# Altium schematic symbol library SparkFun-DigitalIC.SCHLIB: 190 symbols (part 2 of 2)
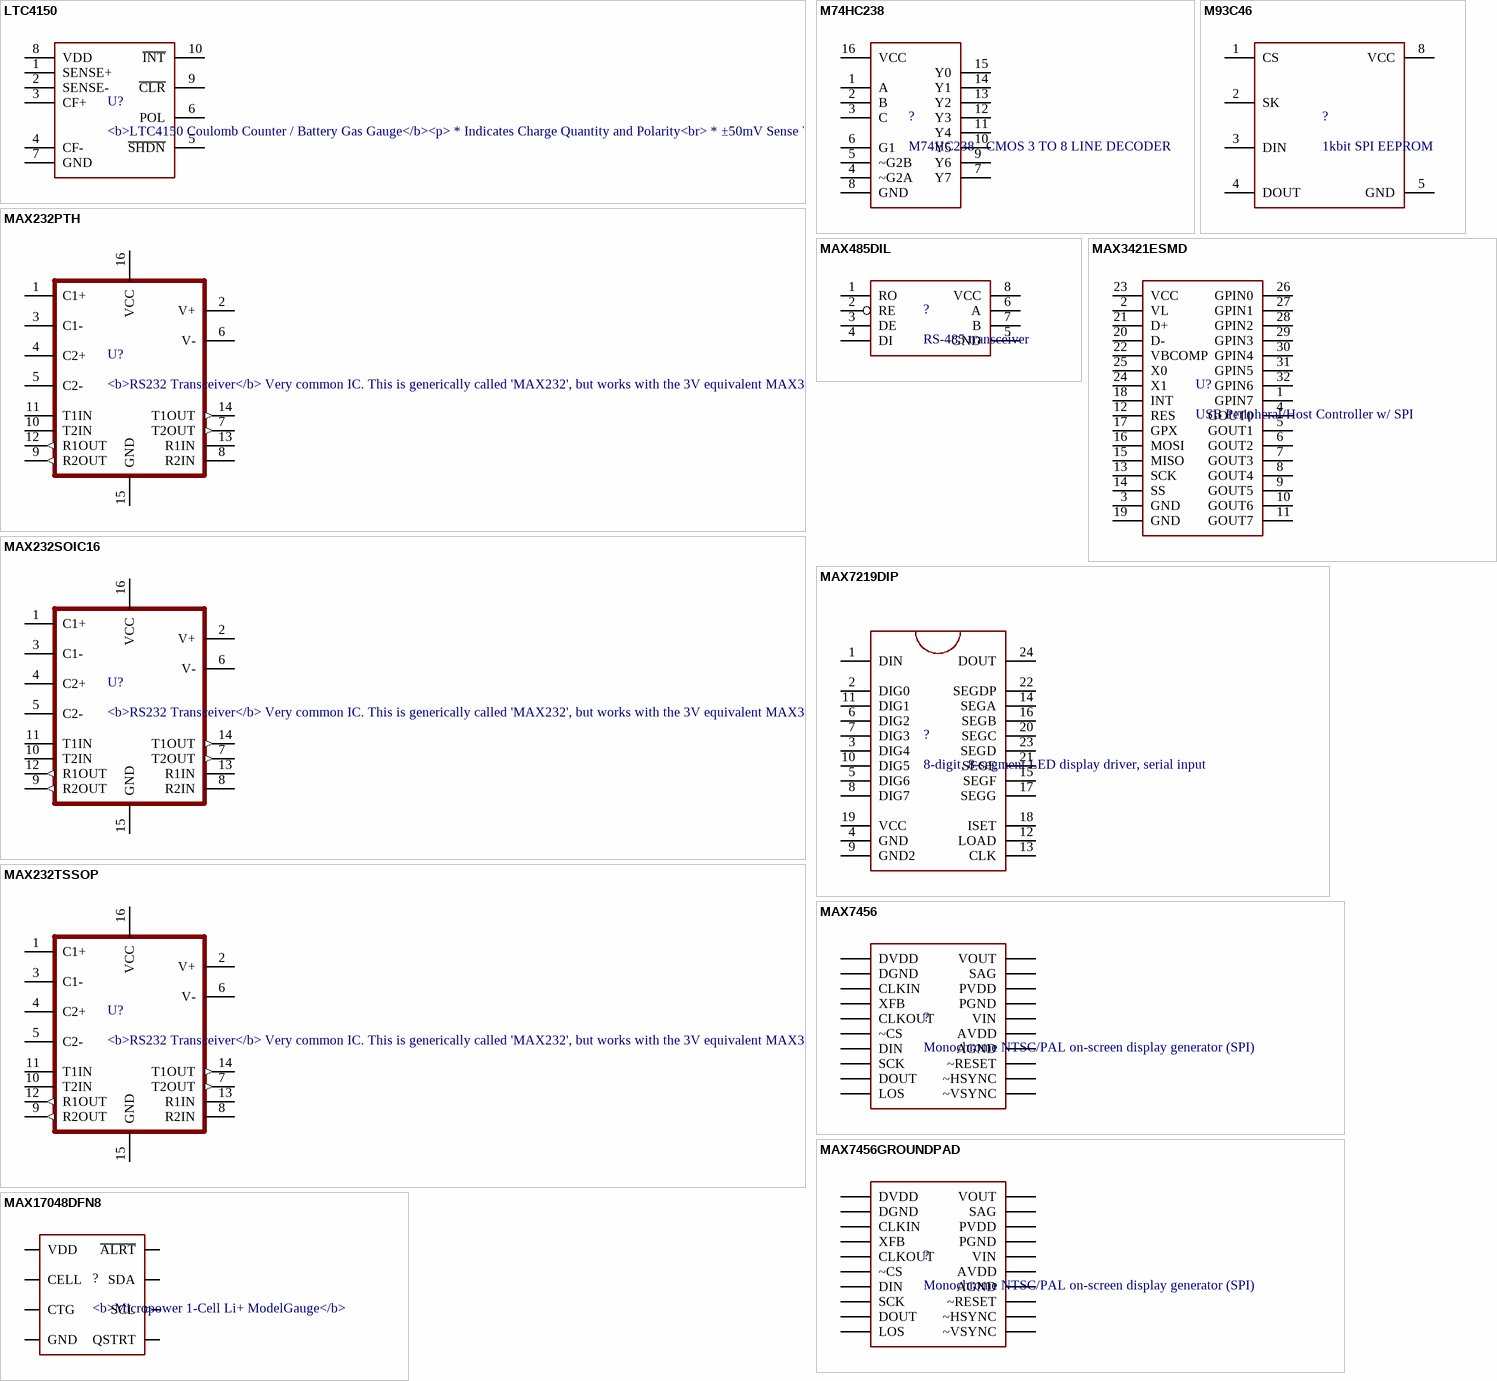
[diagram p24: symbols LTC4150 to MAX17048DFN8]

## MAX232TSSOP
designator U?, comment <b>RS232 Transceiver</b> / Very common IC. This is generically called 'MAX232', but works with the 3V equivalent MAX3232 generic ICs. Field tested and mother approved. Spark Fun Electronics SKU : COM-00316 (DIP) and COM-00589 (SMD)
footprint TSSOP16
pins: 1 C1+, 2 V+, 3 C1-, 4 C2+, 5 C2-, 6 V-, 7 T2OUT (out), 8 R2IN, 9 R2OUT (out), 10 T2IN, 11 T1IN, 12 R1OUT (out), 13 R1IN, 14 T1OUT (out), 15 GND, 16 VCC

## MAX485DIL
designator ?, comment RS-485 transceiver
footprint DIL08
pins: 1 RO, 2 RE, 3 DE, 4 DI, 5 GND, 6 A, 7 B, 8 VCC

## MAX3421ESMD
designator U?, comment USB Peripheral/Host Controller w/ SPI
footprint TQFP32-5MM
pins: 1 GPIN7, 2 VL, 3 GND, 4 GOUT0, 5 GOUT1, 6 GOUT2, 7 GOUT3, 8 GOUT4, 9 GOUT5, 10 GOUT6, 11 GOUT7, 12 RES, 13 SCK, 14 SS, 15 MISO, 16 MOSI, 17 GPX, 18 INT, 19 GND, 20 D-, 21 D+, 22 VBCOMP, 23 VCC, 24 X1, 25 X0, 26 GPIN0, 27 GPIN1, 28 GPIN2, 29 GPIN3, 30 GPIN4, 31 GPIN5, 32 GPIN6

## MAX7219DIP
designator ?, comment 8-digit, 8-segment LED display driver, serial input
footprint DIL24
pins: 1 DIN, 2 DIG0, 3 DIG4, 4 GND, 5 DIG6, 6 DIG2, 7 DIG3, 8 DIG7, 9 GND2, 10 DIG5, 11 DIG1, 12 LOAD, 13 CLK, 14 SEGA, 15 SEGF, 16 SEGB, 17 SEGG, 18 ISET, 19 VCC, 20 SEGC, 21 SEGE, 22 SEGDP, 23 SEGD, 24 DOUT

## MAX7456
designator ?, comment Monochrome NTSC/PAL on-screen display generator (SPI)
footprint TSSOP28
pins: 3 DVDD, 4 DGND, 5 CLKIN, 6 XFB, 7 CLKOUT, 8 ~CS, 9 DIN, 10 SCK, 11 DOUT, 12 LOS, 17 ~VSYNC, 18 ~HSYNC, 19 ~RESET, 20 AGND, 21 AVDD, 22 VIN, 23 PGND, 24 PVDD, 25 SAG, 26 VOUT

## MAX7456GROUNDPAD
designator ?, comment Monochrome NTSC/PAL on-screen display generator (SPI)
footprint TSSOP28-GROUNDPAD
pins: 3 DVDD, 4 DGND, 5 CLKIN, 6 XFB, 7 CLKOUT, 8 ~CS, 9 DIN, 10 SCK, 11 DOUT, 12 LOS, 17 ~VSYNC, 18 ~HSYNC, 19 ~RESET, 20 AGND, 21 AVDD, 22 VIN, 23 PGND, 24 PVDD, 25 SAG, 26 VOUT

## MAX17048DFN8
designator ?, comment <b>Micropower 1-Cell Li+ ModelGauge</b>
footprint DFN-8
pins: P$1 CTG, P$2 CELL, P$3 VDD, P$4 P$9 GND, P$5 ~{ALRT}, P$6 QSTRT, P$7 SCL (out), P$8 SDA

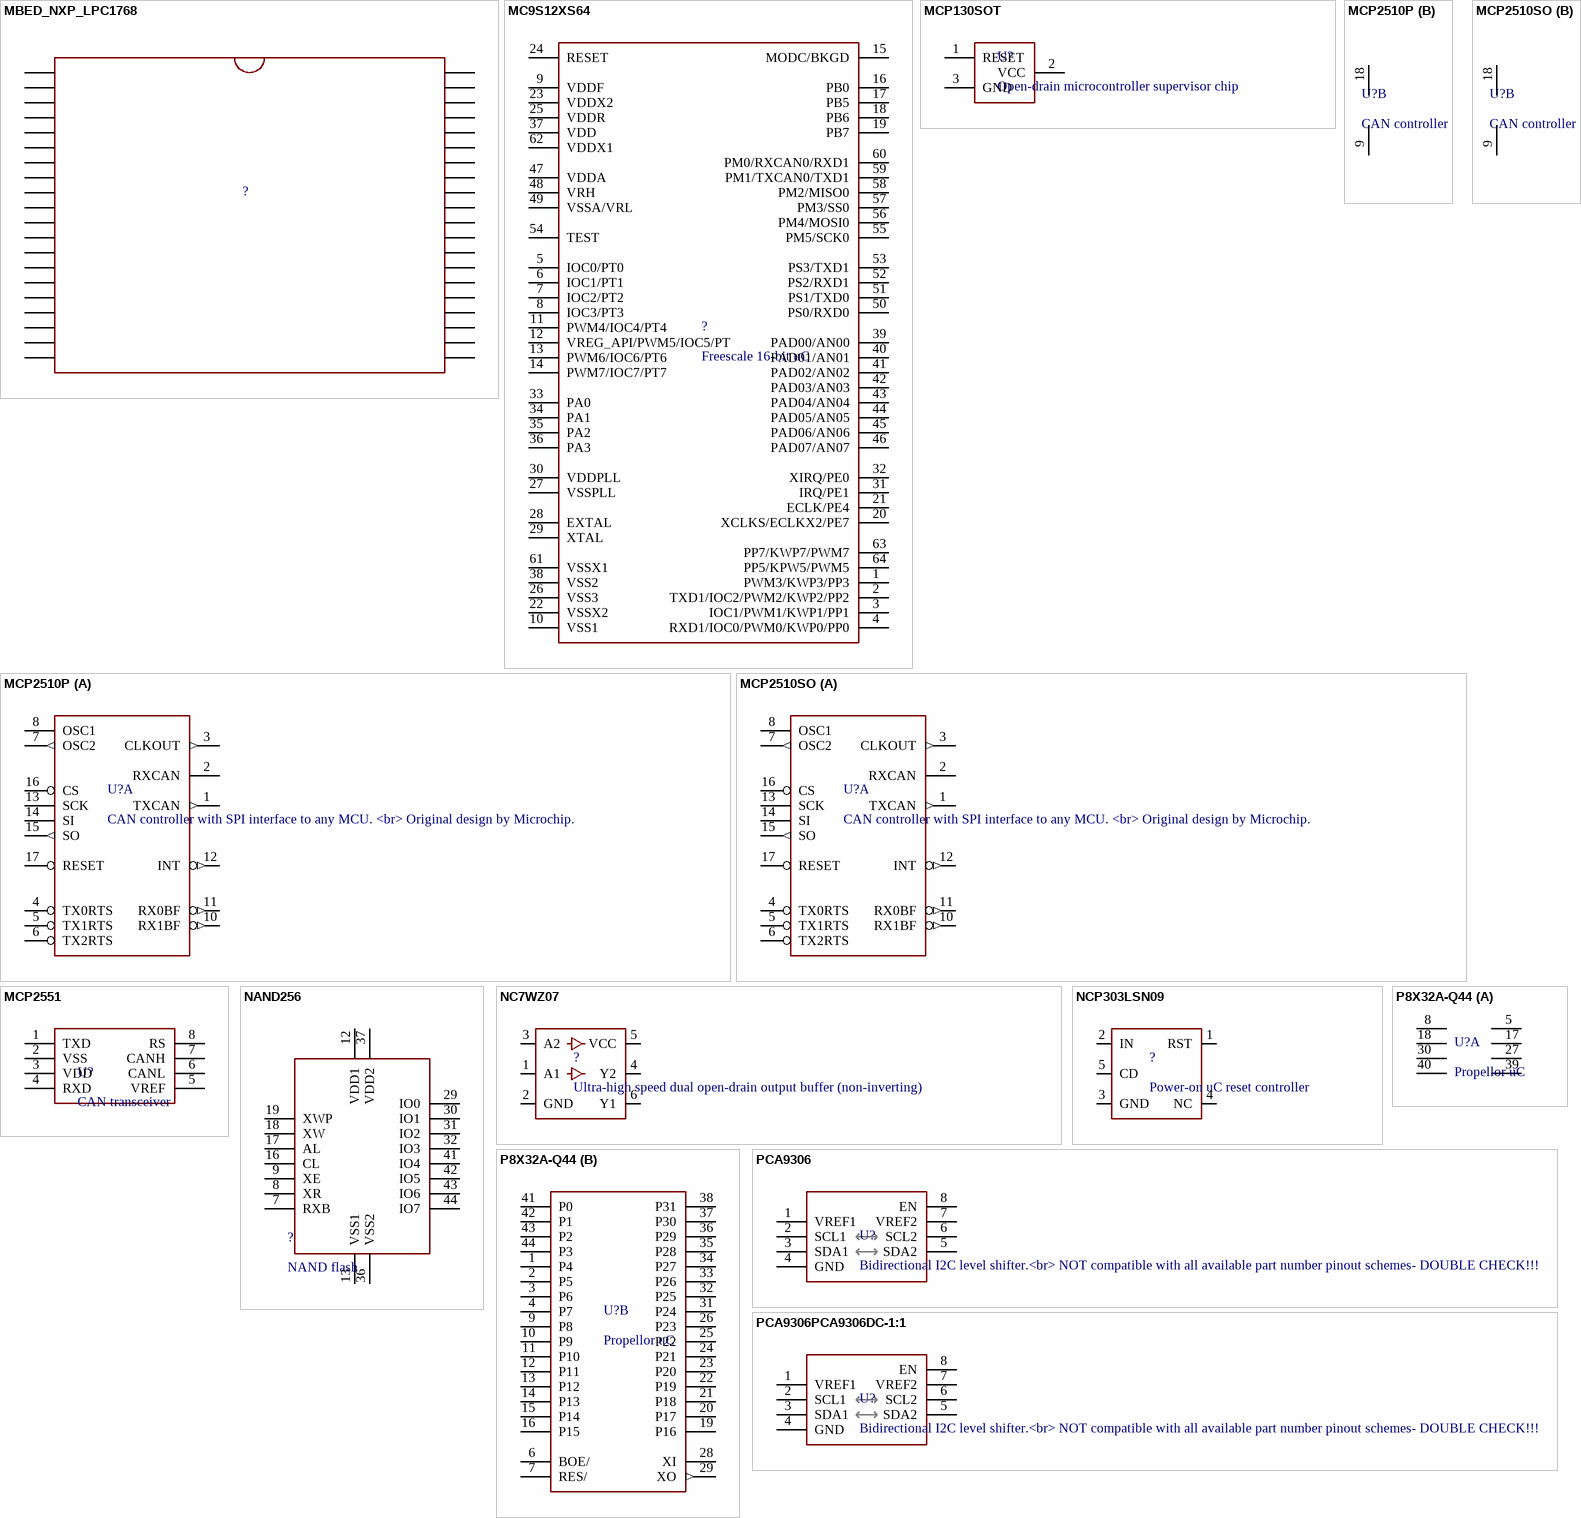
[diagram p14: symbols MBED_NXP_LPC1768 to PCA9306PCA9306DC-1:1]

## MBED_NXP_LPC1768
designator ?
footprint DIL40_0.9
pins: 1 P$1, 2 P$2, 3 P$3, 4 P$4, 5 P$5, 6 P$6, 7 P$7, 8 P$8, 9 P$9, 10 P$10, 11 P$11, 12 P$12, 13 P$13, 14 P$14, 15 P$15, 16 P$16, 17 P$17, 18 P$18, 19 P$19, 20 P$20, 21 P$21, 22 P$22, 23 P$23, 24 P$24, 25 P$25, 26 P$26, 27 P$27, 28 P$28, 29 P$29, 30 P$30, 31 P$31, 32 P$32, 33 P$33, 34 P$34, 35 P$35, 36 P$36, 37 P$37, 38 P$38, 39 P$39, 40 P$40

## MC9S12XS64
designator ?, comment Freescale 16-bit uC
footprint SQFP-S-10X10-64
pins: 1 PWM3/KWP3/PP3, 2 TXD1/IOC2/PWM2/KWP2/PP2, 3 IOC1/PWM1/KWP1/PP1, 4 RXD1/IOC0/PWM0/KWP0/PP0, 5 IOC0/PT0, 6 IOC1/PT1, 7 IOC2/PT2, 8 IOC3/PT3, 9 VDDF, 10 VSS1, 11 PWM4/IOC4/PT4, 12 VREG_API/PWM5/IOC5/PT, 13 PWM6/IOC6/PT6, 14 PWM7/IOC7/PT7, 15 MODC/BKGD, 16 PB0, 17 PB5, 18 PB6, 19 PB7, 20 XCLKS/ECLKX2/PE7, 21 ECLK/PE4, 22 VSSX2, 23 VDDX2, 24 RESET, 25 VDDR, 26 VSS3, 27 VSSPLL, 28 EXTAL, 29 XTAL, 30 VDDPLL, 31 IRQ/PE1, 32 XIRQ/PE0, 33 PA0, 34 PA1, 35 PA2, 36 PA3, 37 VDD, 38 VSS2, 39 PAD00/AN00, 40 PAD01/AN01, 41 PAD02/AN02, 42 PAD03/AN03, 43 PAD04/AN04, 44 PAD05/AN05, 45 PAD06/AN06, 46 PAD07/AN07, 47 VDDA, 48 VRH, 49 VSSA/VRL, 50 PS0/RXD0, 51 PS1/TXD0, 52 PS2/RXD1, 53 PS3/TXD1, 54 TEST, 55 PM5/SCK0, 56 PM4/MOSI0, 57 PM3/SS0, 58 PM2/MISO0, 59 PM1/TXCAN0/TXD1, 60 PM0/RXCAN0/RXD1, 61 VSSX1, 62 VDDX1, 63 PP7/KWP7/PWM7, 64 PP5/KPW5/PWM5

## MCP130SOT
designator U?, comment Open-drain microcontroller supervisor chip
footprint SOT23-3
pins: 1 RESET, 2 VCC, 3 GND

## MCP2510P
designator U?, comment CAN controller with SPI interface to any MCU. / <br> / Original design by Microchip.
footprint DIL18
part A pins: 1 TXCAN (out), 2 RXCAN, 3 CLKOUT (out), 4 TX0RTS, 5 TX1RTS, 6 TX2RTS, 7 OSC2 (out), 8 OSC1, 10 RX1BF (out), 11 RX0BF (out), 12 INT (out), 13 SCK, 14 SI, 15 SO (out), 16 CS, 17 RESET
part B pins: 9 VSS (power), 18 VDD (power)

## MCP2510SO
designator U?, comment CAN controller with SPI interface to any MCU. / <br> / Original design by Microchip.
PROD_ID: IC-09906
footprint SO-18W
part A pins: 1 TXCAN (out), 2 RXCAN, 3 CLKOUT (out), 4 TX0RTS, 5 TX1RTS, 6 TX2RTS, 7 OSC2 (out), 8 OSC1, 10 RX1BF (out), 11 RX0BF (out), 12 INT (out), 13 SCK, 14 SI, 15 SO (out), 16 CS, 17 RESET
part B pins: 9 VSS (power), 18 VDD (power)

## MCP2551
designator U?, comment CAN transceiver
PROD_ID: IC-09907
footprint SO08
pins: 1 TXD, 2 VSS, 3 VDD, 4 RXD, 5 VREF, 6 CANL, 7 CANH, 8 RS

## NAND256
designator ?, comment NAND flash
footprint TSOP48
pins: 7 RXB, 8 XR, 9 XE, 12 VDD1, 13 VSS1, 16 CL, 17 AL, 18 XW, 19 XWP, 29 IO0, 30 IO1, 31 IO2, 32 IO3, 36 VSS2, 37 VDD2, 41 IO4, 42 IO5, 43 IO6, 44 IO7

## NC7WZ07
designator ?, comment Ultra-high speed dual open-drain output buffer (non-inverting)
footprint SC70-6
pins: 1 A1, 2 GND, 3 A2, 4 Y2, 5 VCC, 6 Y1

## NCP303LSN09
designator ?, comment Power-on uC reset controller
footprint SOT23-5
pins: 1 RST, 2 IN, 3 GND, 4 NC, 5 CD

## P8X32A-Q44
designator U?, comment Propellor uC
footprint P8X32A-Q44
part A pins: 5 VSS (power), 8 VDD (power), 17 VSS (power), 18 VDD (power), 27 VSS (power), 30 VDD (power), 39 VSS (power), 40 VDD (power)
part B pins: 1 P4, 2 P5, 3 P6, 4 P7, 6 BOE/, 7 RES/, 9 P8, 10 P9, 11 P10, 12 P11, 13 P12, 14 P13, 15 P14, 16 P15, 19 P16, 20 P17, 21 P18, 22 P19, 23 P20, 24 P21, 25 P22, 26 P23, 28 XI, 29 XO (out), 31 P24, 32 P25, 33 P26, 34 P27, 35 P28, 36 P29, 37 P30, 38 P31, 41 P0, 42 P1, 43 P2, 44 P3

## PCA9306
designator U?, comment Bidirectional I2C level shifter.<br> / NOT compatible with all available part number pinout schemes- DOUBLE CHECK!!!
PROD_ID: IC-10023
footprint PSOP-8
pins: 1 VREF1, 2 SCL1, 3 SDA1, 4 GND, 5 SDA2, 6 SCL2, 7 VREF2, 8 EN

## PCA9306PCA9306DC-1:1
designator U?, comment Bidirectional I2C level shifter.<br> / NOT compatible with all available part number pinout schemes- DOUBLE CHECK!!!
PROD_ID: IC-10023
footprint PCA9306DC-1:1
pins: 1 VREF1, 2 SCL1, 3 SDA1, 4 GND, 5 SDA2, 6 SCL2, 7 VREF2, 8 EN

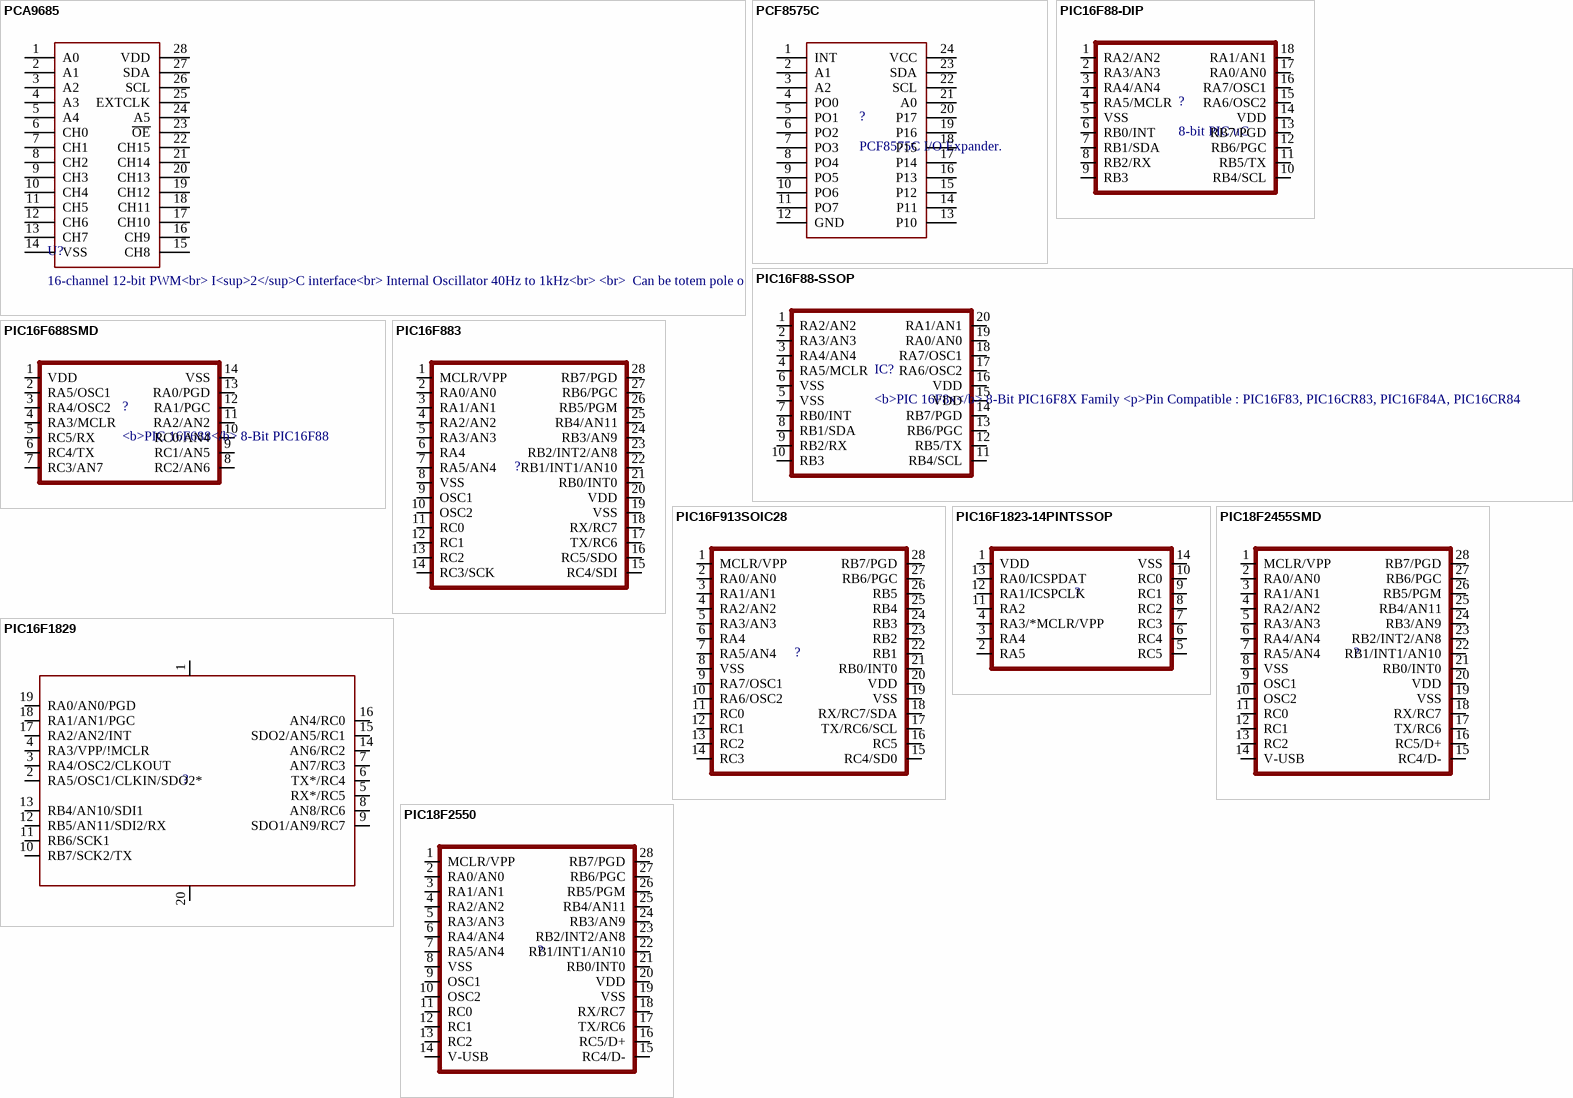
[diagram p15: symbols PCA9685 to PIC18F2550]

## PCA9685
designator U?, comment 16-channel 12-bit PWM<br> / I<sup>2</sup>C interface<br> / Internal Oscillator 40Hz to 1kHz<br> <br> / Can be totem pole or open collector<br> / 2.3V to 5.5V
PROD_ID: IC-12240
footprint TSSOP-28_4MM
pins: 1 A0, 2 A1, 3 A2, 4 A3, 5 A4, 6 CH0, 7 CH1, 8 CH2, 9 CH3, 10 CH4, 11 CH5, 12 CH6, 13 CH7, 14 VSS, 15 CH8, 16 CH9, 17 CH10, 18 CH11, 19 CH12, 20 CH13, 21 CH14, 22 CH15, 23 ~{OE}, 24 A5, 25 EXTCLK, 26 SCL, 27 SDA, 28 VDD

## PCF8575C
designator ?, comment PCF8575C I/O Expander.
footprint SO-24DW
pins: 1 INT, 2 A1, 3 A2, 4 PO0, 5 PO1, 6 PO2, 7 PO3, 8 PO4, 9 PO5, 10 PO6, 11 PO7, 12 GND, 13 P10, 14 P11, 15 P12, 16 P13, 17 P14, 18 P15, 19 P16, 20 P17, 21 A0, 22 SCL, 23 SDA, 24 VCC

## PIC16F88-DIP
designator ?, comment 8-bit PIC uC
footprint DIL18
pins: 1 RA2/AN2, 2 RA3/AN3, 3 RA4/AN4, 4 RA5/MCLR, 5 VSS (power), 6 RB0/INT, 7 RB1/SDA, 8 RB2/RX, 9 RB3, 10 RB4/SCL, 11 RB5/TX, 12 RB6/PGC, 13 RB7/PGD, 14 VDD (power), 15 RA6/OSC2, 16 RA7/OSC1, 17 RA0/AN0, 18 RA1/AN1

## PIC16F88-SSOP
designator IC?, comment <b>PIC 16F8x</b> / 8-Bit PIC16F8X Family / <p>Pin Compatible : PIC16F83, PIC16CR83, PIC16F84A, PIC16CR84
footprint SSOP20
pins: 1 RA2/AN2, 2 RA3/AN3, 3 RA4/AN4, 4 RA5/MCLR, 5 VSS (power), 6 VSS (power), 7 RB0/INT, 8 RB1/SDA, 9 RB2/RX, 10 RB3, 11 RB4/SCL, 12 RB5/TX, 13 RB6/PGC, 14 RB7/PGD, 15 VDD (power), 16 VDD (power), 17 RA6/OSC2, 18 RA7/OSC1, 19 RA0/AN0, 20 RA1/AN1

## PIC16F688SMD
designator ?, comment <b>PIC 16F688</b> / 8-Bit PIC16F88
footprint SOIC-14
pins: 1 VDD (power), 2 RA5/OSC1, 3 RA4/OSC2, 4 RA3/MCLR, 5 RC5/RX, 6 RC4/TX, 7 RC3/AN7, 8 RC2/AN6, 9 RC1/AN5, 10 RC0/AN4, 11 RA2/AN2, 12 RA1/PGC, 13 RA0/PGD, 14 VSS (power)

## PIC16F883
designator ?
footprint SO-28W
pins: 1 MCLR/VPP, 2 RA0/AN0, 3 RA1/AN1, 4 RA2/AN2, 5 RA3/AN3, 6 RA4, 7 RA5/AN4, 8 VSS (power), 9 OSC1, 10 OSC2, 11 RC0, 12 RC1, 13 RC2, 14 RC3/SCK, 15 RC4/SDI, 16 RC5/SDO, 17 TX/RC6, 18 RX/RC7, 19 VSS (power), 20 VDD (power), 21 RB0/INT0, 22 RB1/INT1/AN10, 23 RB2/INT2/AN8, 24 RB3/AN9, 25 RB4/AN11, 26 RB5/PGM, 27 RB6/PGC, 28 RB7/PGD

## PIC16F913SOIC28
designator ?
footprint SO-28W
pins: 1 MCLR/VPP, 2 RA0/AN0, 3 RA1/AN1, 4 RA2/AN2, 5 RA3/AN3, 6 RA4, 7 RA5/AN4, 8 VSS (power), 9 RA7/OSC1, 10 RA6/OSC2, 11 RC0, 12 RC1, 13 RC2, 14 RC3, 15 RC4/SD0, 16 RC5, 17 TX/RC6/SCL, 18 RX/RC7/SDA, 19 VSS (power), 20 VDD (power), 21 RB0/INT0, 22 RB1, 23 RB2, 24 RB3, 25 RB4, 26 RB5, 27 RB6/PGC, 28 RB7/PGD

## PIC16F1823-14PINTSSOP
designator ?
PROD_ID: IC-11992
footprint TSSOP14
pins: 1 VDD (power), 2 RA5, 3 RA4, 4 RA3/*MCLR/VPP, 5 RC5, 6 RC4, 7 RC3, 8 RC2, 9 RC1, 10 RC0, 11 RA2, 12 RA1/ICSPCLK, 13 RA0/ICSPDAT, 14 VSS (power)

## PIC16F1829
designator ?
footprint SSOP20
pins: 1 VDD (power), 2 RA5/OSC1/CLKIN/SDO2*, 3 RA4/OSC2/CLKOUT, 4 RA3/VPP/!MCLR, 5 RX*/RC5, 6 TX*/RC4, 7 AN7/RC3, 8 AN8/RC6, 9 SDO1/AN9/RC7, 10 RB7/SCK2/TX, 11 RB6/SCK1, 12 RB5/AN11/SDI2/RX, 13 RB4/AN10/SDI1, 14 AN6/RC2, 15 SDO2/AN5/RC1, 16 AN4/RC0, 17 RA2/AN2/INT, 18 RA1/AN1/PGC, 19 RA0/AN0/PGD, 20 VSS (power)

## PIC18F2455SMD
designator ?
footprint SO-28W
pins: 1 MCLR/VPP, 2 RA0/AN0, 3 RA1/AN1, 4 RA2/AN2, 5 RA3/AN3, 6 RA4/AN4, 7 RA5/AN4, 8 VSS (power), 9 OSC1, 10 OSC2, 11 RC0, 12 RC1, 13 RC2, 14 V-USB, 15 RC4/D-, 16 RC5/D+, 17 TX/RC6, 18 RX/RC7, 19 VSS (power), 20 VDD (power), 21 RB0/INT0, 22 RB1/INT1/AN10, 23 RB2/INT2/AN8, 24 RB3/AN9, 25 RB4/AN11, 26 RB5/PGM, 27 RB6/PGC, 28 RB7/PGD

## PIC18F2550
designator ?
footprint DIL28-3
pins: 1 MCLR/VPP, 2 RA0/AN0, 3 RA1/AN1, 4 RA2/AN2, 5 RA3/AN3, 6 RA4/AN4, 7 RA5/AN4, 8 VSS (power), 9 OSC1, 10 OSC2, 11 RC0, 12 RC1, 13 RC2, 14 V-USB, 15 RC4/D-, 16 RC5/D+, 17 TX/RC6, 18 RX/RC7, 19 VSS (power), 20 VDD (power), 21 RB0/INT0, 22 RB1/INT1/AN10, 23 RB2/INT2/AN8, 24 RB3/AN9, 25 RB4/AN11, 26 RB5/PGM, 27 RB6/PGC, 28 RB7/PGD

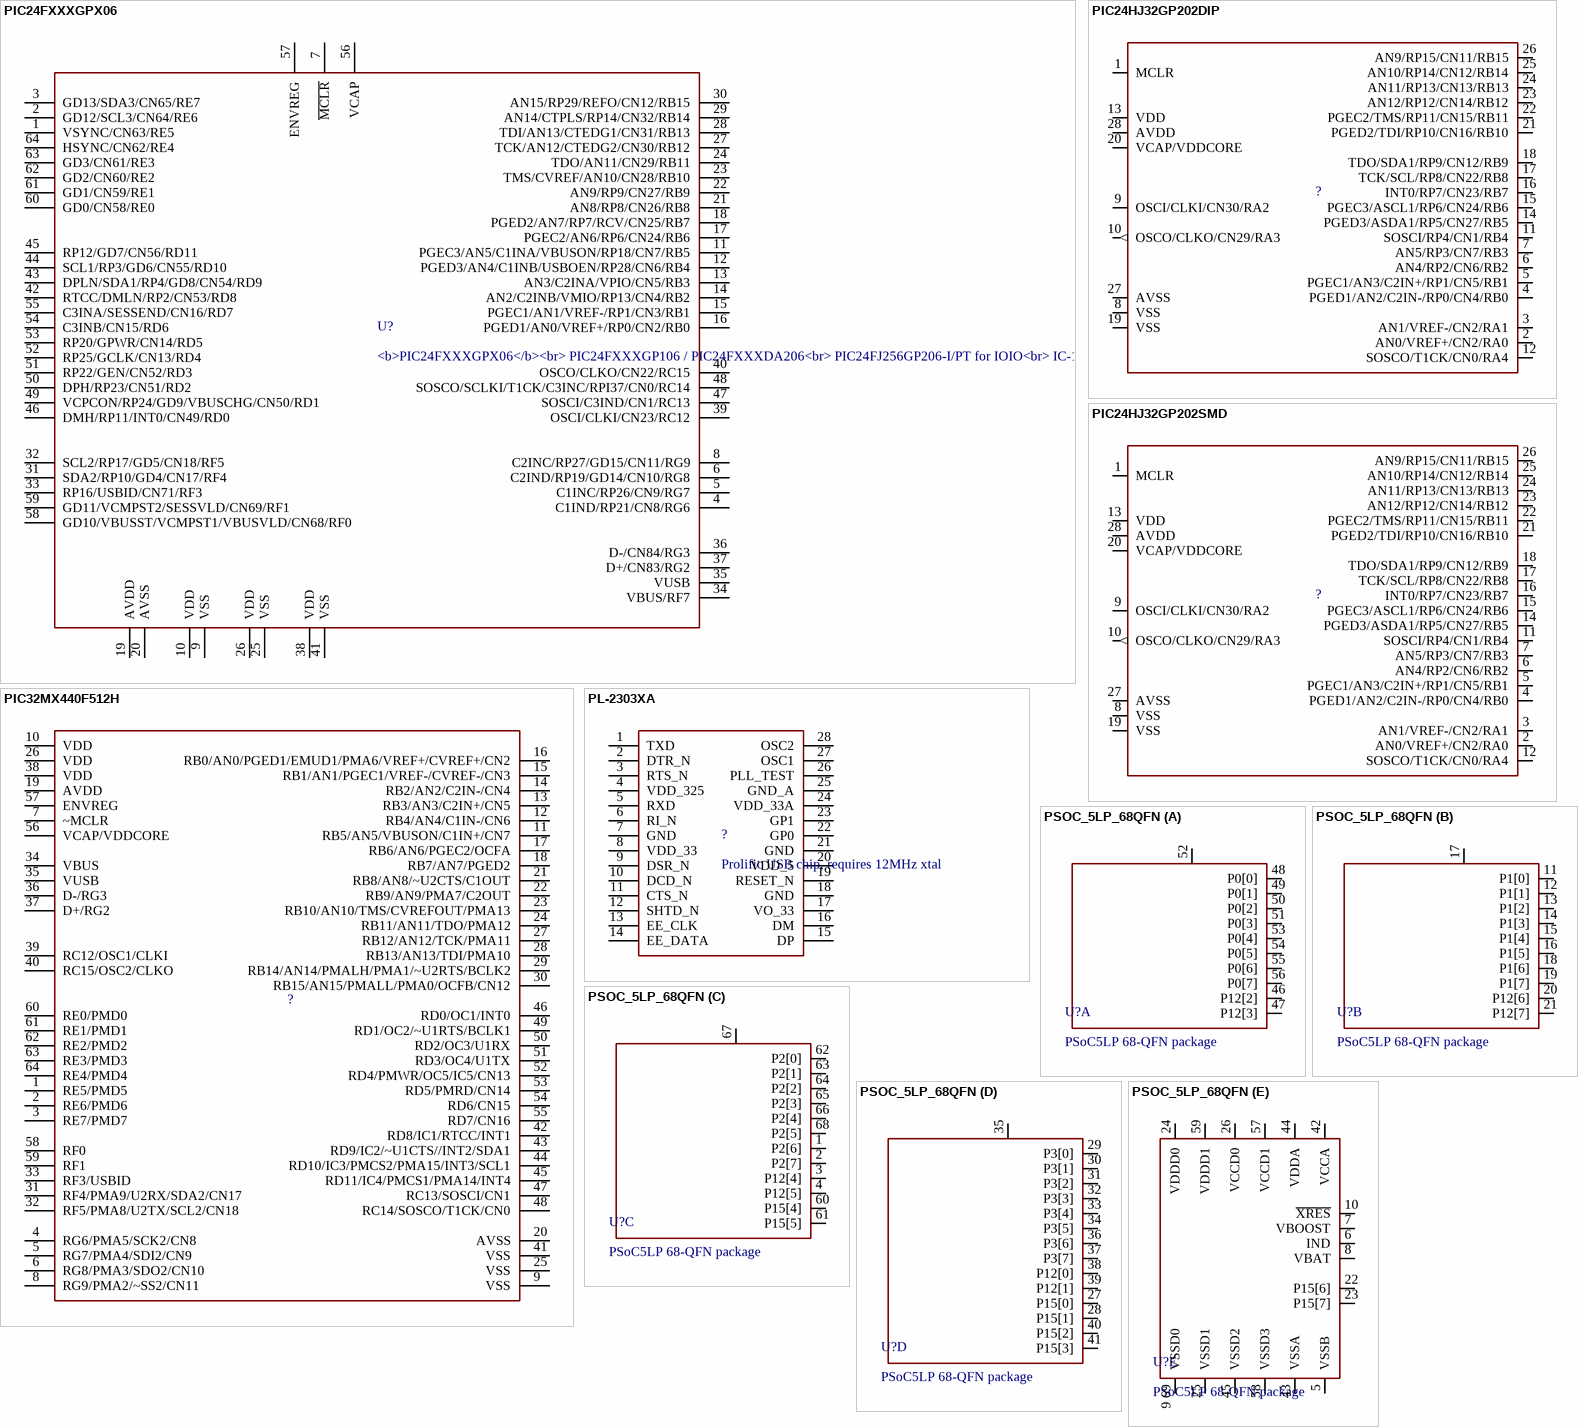
[diagram p16: symbols PIC24FXXXGPX06 to PSOC_5LP_68QFN]

## PIC24FXXXGPX06
designator U?, comment <b>PIC24FXXXGPX06</b><br> / PIC24FXXXGP106 / PIC24FXXXDA206<br> / PIC24FJ256GP206-I/PT for IOIO<br> / IC-11312
PROD_ID: IC-11312
footprint PIC24FXXX_TQFP64
pins: 1 VSYNC/CN63/RE5, 2 GD12/SCL3/CN64/RE6, 3 GD13/SDA3/CN65/RE7, 4 C1IND/RP21/CN8/RG6, 5 C1INC/RP26/CN9/RG7, 6 C2IND/RP19/GD14/CN10/RG8, 7 ~{MCLR}, 8 C2INC/RP27/GD15/CN11/RG9, 9 VSS (power), 10 VDD (power), 11 PGEC3/AN5/C1INA/VBUSON/RP18/CN7/RB5, 12 PGED3/AN4/C1INB/USBOEN/RP28/CN6/RB4, 13 AN3/C2INA/VPIO/CN5/RB3, 14 AN2/C2INB/VMIO/RP13/CN4/RB2, 15 PGEC1/AN1/VREF-/RP1/CN3/RB1, 16 PGED1/AN0/VREF+/RP0/CN2/RB0, 17 PGEC2/AN6/RP6/CN24/RB6, 18 PGED2/AN7/RP7/RCV/CN25/RB7, 19 AVDD (power), 20 AVSS (power), 21 AN8/RP8/CN26/RB8, 22 AN9/RP9/CN27/RB9, 23 TMS/CVREF/AN10/CN28/RB10, 24 TDO/AN11/CN29/RB11, 25 VSS (power), 26 VDD (power), 27 TCK/AN12/CTEDG2/CN30/RB12, 28 TDI/AN13/CTEDG1/CN31/RB13, 29 AN14/CTPLS/RP14/CN32/RB14, 30 AN15/RP29/REFO/CN12/RB15, 31 SDA2/RP10/GD4/CN17/RF4, 32 SCL2/RP17/GD5/CN18/RF5, 33 RP16/USBID/CN71/RF3, 34 VBUS/RF7, 35 VUSB (power), 36 D-/CN84/RG3, 37 D+/CN83/RG2, 38 VDD (power), 39 OSCI/CLKI/CN23/RC12, 40 OSCO/CLKO/CN22/RC15, 41 VSS (power), 42 RTCC/DMLN/RP2/CN53/RD8, 43 DPLN/SDA1/RP4/GD8/CN54/RD9, 44 SCL1/RP3/GD6/CN55/RD10, 45 RP12/GD7/CN56/RD11, 46 DMH/RP11/INT0/CN49/RD0, 47 SOSCI/C3IND/CN1/RC13, 48 SOSCO/SCLKI/T1CK/C3INC/RPI37/CN0/RC14, 49 VCPCON/RP24/GD9/VBUSCHG/CN50/RD1, 50 DPH/RP23/CN51/RD2, 51 RP22/GEN/CN52/RD3, 52 RP25/GCLK/CN13/RD4, 53 RP20/GPWR/CN14/RD5, 54 C3INB/CN15/RD6, 55 C3INA/SESSEND/CN16/RD7, 56 VCAP (power), 57 ENVREG, 58 GD10/VBUSST/VCMPST1/VBUSVLD/CN68/RF0, 59 GD11/VCMPST2/SESSVLD/CN69/RF1, 60 GD0/CN58/RE0, 61 GD1/CN59/RE1, 62 GD2/CN60/RE2, 63 GD3/CN61/RE3, 64 HSYNC/CN62/RE4

## PIC24HJ32GP202DIP
designator ?
footprint DIL28-3
pins: 1 MCLR, 2 AN0/VREF+/CN2/RA0, 3 AN1/VREF-/CN2/RA1, 4 PGED1/AN2/C2IN-/RP0/CN4/RB0, 5 PGEC1/AN3/C2IN+/RP1/CN5/RB1, 6 AN4/RP2/CN6/RB2, 7 AN5/RP3/CN7/RB3, 8 VSS (power), 9 OSCI/CLKI/CN30/RA2, 10 OSCO/CLKO/CN29/RA3 (out), 11 SOSCI/RP4/CN1/RB4, 12 SOSCO/T1CK/CN0/RA4, 13 VDD (power), 14 PGED3/ASDA1/RP5/CN27/RB5, 15 PGEC3/ASCL1/RP6/CN24/RB6, 16 INT0/RP7/CN23/RB7, 17 TCK/SCL/RP8/CN22/RB8, 18 TDO/SDA1/RP9/CN12/RB9, 19 VSS (power), 20 VCAP/VDDCORE (power), 21 PGED2/TDI/RP10/CN16/RB10, 22 PGEC2/TMS/RP11/CN15/RB11, 23 AN12/RP12/CN14/RB12, 24 AN11/RP13/CN13/RB13, 25 AN10/RP14/CN12/RB14, 26 AN9/RP15/CN11/RB15, 27 AVSS (power), 28 AVDD (power)

## PIC24HJ32GP202SMD
designator ?
footprint SO-28W
pins: 1 MCLR, 2 AN0/VREF+/CN2/RA0, 3 AN1/VREF-/CN2/RA1, 4 PGED1/AN2/C2IN-/RP0/CN4/RB0, 5 PGEC1/AN3/C2IN+/RP1/CN5/RB1, 6 AN4/RP2/CN6/RB2, 7 AN5/RP3/CN7/RB3, 8 VSS (power), 9 OSCI/CLKI/CN30/RA2, 10 OSCO/CLKO/CN29/RA3 (out), 11 SOSCI/RP4/CN1/RB4, 12 SOSCO/T1CK/CN0/RA4, 13 VDD (power), 14 PGED3/ASDA1/RP5/CN27/RB5, 15 PGEC3/ASCL1/RP6/CN24/RB6, 16 INT0/RP7/CN23/RB7, 17 TCK/SCL/RP8/CN22/RB8, 18 TDO/SDA1/RP9/CN12/RB9, 19 VSS (power), 20 VCAP/VDDCORE (power), 21 PGED2/TDI/RP10/CN16/RB10, 22 PGEC2/TMS/RP11/CN15/RB11, 23 AN12/RP12/CN14/RB12, 24 AN11/RP13/CN13/RB13, 25 AN10/RP14/CN12/RB14, 26 AN9/RP15/CN11/RB15, 27 AVSS (power), 28 AVDD (power)

## PIC32MX440F512H
designator ?
footprint SQFP-S-10X10-64
pins: 1 RE5/PMD5, 2 RE6/PMD6, 3 RE7/PMD7, 4 RG6/PMA5/SCK2/CN8, 5 RG7/PMA4/SDI2/CN9, 6 RG8/PMA3/SDO2/CN10, 7 ~MCLR, 8 RG9/PMA2/~SS2/CN11, 9 VSS, 10 VDD, 11 RB5/AN5/VBUSON/C1IN+/CN7, 12 RB4/AN4/C1IN-/CN6, 13 RB3/AN3/C2IN+/CN5, 14 RB2/AN2/C2IN-/CN4, 15 RB1/AN1/PGEC1/VREF-/CVREF-/CN3, 16 RB0/AN0/PGED1/EMUD1/PMA6/VREF+/CVREF+/CN2, 17 RB6/AN6/PGEC2/OCFA, 18 RB7/AN7/PGED2, 19 AVDD, 20 AVSS, 21 RB8/AN8/~U2CTS/C1OUT, 22 RB9/AN9/PMA7/C2OUT, 23 RB10/AN10/TMS/CVREFOUT/PMA13, 24 RB11/AN11/TDO/PMA12, 25 VSS, 26 VDD, 27 RB12/AN12/TCK/PMA11, 28 RB13/AN13/TDI/PMA10, 29 RB14/AN14/PMALH/PMA1/~U2RTS/BCLK2, 30 RB15/AN15/PMALL/PMA0/OCFB/CN12, 31 RF4/PMA9/U2RX/SDA2/CN17, 32 RF5/PMA8/U2TX/SCL2/CN18, 33 RF3/USBID, 34 VBUS, 35 VUSB, 36 D-/RG3, 37 D+/RG2, 38 VDD, 39 RC12/OSC1/CLKI, 40 RC15/OSC2/CLKO, 41 VSS, 42 RD8/IC1/RTCC/INT1, 43 RD9/IC2/~U1CTS//INT2/SDA1, 44 RD10/IC3/PMCS2/PMA15/INT3/SCL1, 45 RD11/IC4/PMCS1/PMA14/INT4, 46 RD0/OC1/INT0, 47 RC13/SOSCI/CN1, 48 RC14/SOSCO/T1CK/CN0, 49 RD1/OC2/~U1RTS/BCLK1, 50 RD2/OC3/U1RX, 51 RD3/OC4/U1TX, 52 RD4/PMWR/OC5/IC5/CN13, 53 RD5/PMRD/CN14, 54 RD6/CN15, 55 RD7/CN16, 56 VCAP/VDDCORE, 57 ENVREG, 58 RF0, 59 RF1, 60 RE0/PMD0, 61 RE1/PMD1, 62 RE2/PMD2, 63 RE3/PMD3, 64 RE4/PMD4

## PL-2303XA
designator ?, comment Prolific USB chip, requires 12MHz xtal
footprint SSOP28DB
pins: 1 TXD, 2 DTR_N, 3 RTS_N, 4 VDD_325, 5 RXD, 6 RI_N, 7 GND, 8 VDD_33, 9 DSR_N, 10 DCD_N, 11 CTS_N, 12 SHTD_N, 13 EE_CLK, 14 EE_DATA, 15 DP, 16 DM, 17 VO_33, 18 GND, 19 RESET_N, 20 VDD_5, 21 GND, 22 GP0, 23 GP1, 24 VDD_33A, 25 GND_A, 26 PLL_TEST, 27 OSC1, 28 OSC2

## PSOC_5LP_68QFN
designator U?, comment PSoC5LP 68-QFN package
PROD_ID: IC-12391
footprint QFN-68
part A pins: 46 P12[2], 47 P12[3], 48 P0[0], 49 P0[1], 50 P0[2], 51 P0[3], 52 VDDIO0, 53 P0[4], 54 P0[5], 55 P0[6], 56 P0[7]
part B pins: 11 P1[0], 12 P1[1], 13 P1[2], 14 P1[3], 15 P1[4], 16 P1[5], 17 VDDIO1, 18 P1[6], 19 P1[7], 20 P12[6], 21 P12[7]
part C pins: 1 P2[6], 2 P2[7], 3 P12[4], 4 P12[5], 60 P15[4], 61 P15[5], 62 P2[0], 63 P2[1], 64 P2[2], 65 P2[3], 66 P2[4], 67 VDDIO2, 68 P2[5]
part D pins: 27 P15[0], 28 P15[1], 29 P3[0], 30 P3[1], 31 P3[2], 32 P3[3], 33 P3[4], 34 P3[5], 35 VDDIO3, 36 P3[6], 37 P3[7], 38 P12[0], 39 P12[1], 40 P15[2], 41 P15[3]
part E pins: 5 VSSB, 6 IND, 7 VBOOST, 8 VBAT, 9 69 VSSD0, 10 ~{XRES}, 22 P15[6], 23 P15[7], 24 VDDD0, 25 VSSD1, 26 VCCD0, 42 VCCA, 43 VSSA, 44 VDDA, 45 VSSD2, 57 VCCD1, 58 VSSD3, 59 VDDD1

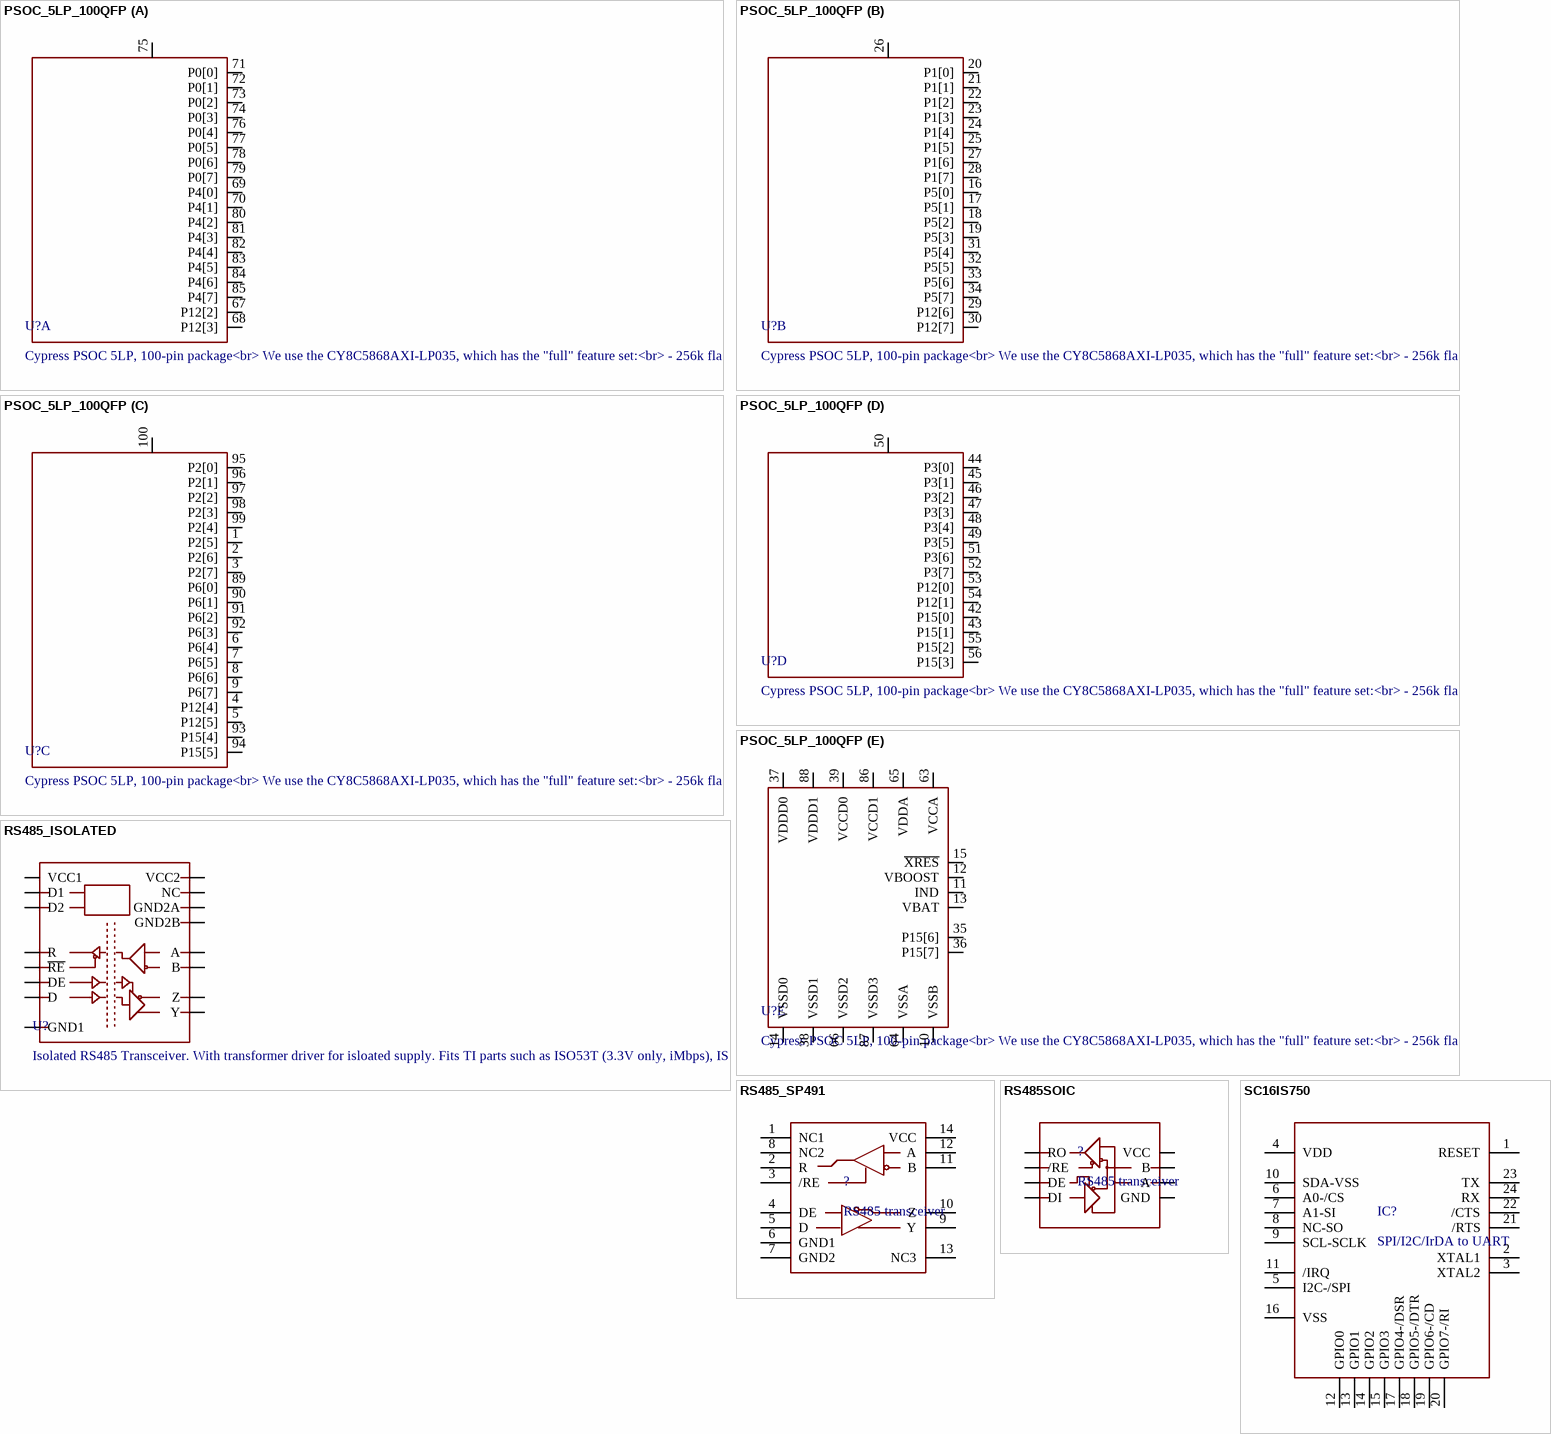
[diagram p17: symbols PSOC_5LP_100QFP to SC16IS750]

## PSOC_5LP_100QFP
designator U?, comment Cypress PSOC 5LP, 100-pin package<br> / We use the CY8C5868AXI-LP035, which has the "full" feature set:<br> / - 256k flash<br> / - 64k SRAM<br> / - 2k EEPROM <br> / - CAN<br> / - Full-speed USB<br> / - 67MHz operation
PROD_ID: IC-12190
footprint TQFP-100-14X14MM
part A pins: 67 P12[2], 68 P12[3], 69 P4[0], 70 P4[1], 71 P0[0], 72 P0[1], 73 P0[2], 74 P0[3], 75 VDDIO0, 76 P0[4], 77 P0[5], 78 P0[6], 79 P0[7], 80 P4[2], 81 P4[3], 82 P4[4], 83 P4[5], 84 P4[6], 85 P4[7]
part B pins: 16 P5[0], 17 P5[1], 18 P5[2], 19 P5[3], 20 P1[0], 21 P1[1], 22 P1[2], 23 P1[3], 24 P1[4], 25 P1[5], 26 VDDIO1, 27 P1[6], 28 P1[7], 29 P12[6], 30 P12[7], 31 P5[4], 32 P5[5], 33 P5[6], 34 P5[7]
part C pins: 1 P2[5], 2 P2[6], 3 P2[7], 4 P12[4], 5 P12[5], 6 P6[4], 7 P6[5], 8 P6[6], 9 P6[7], 89 P6[0], 90 P6[1], 91 P6[2], 92 P6[3], 93 P15[4], 94 P15[5], 95 P2[0], 96 P2[1], 97 P2[2], 98 P2[3], 99 P2[4], 100 VDDIO2
part D pins: 42 P15[0], 43 P15[1], 44 P3[0], 45 P3[1], 46 P3[2], 47 P3[3], 48 P3[4], 49 P3[5], 50 VDDIO3, 51 P3[6], 52 P3[7], 53 P12[0], 54 P12[1], 55 P15[2], 56 P15[3]
part E pins: 10 VSSB, 11 IND, 12 VBOOST, 13 VBAT, 14 VSSD0, 15 ~{XRES}, 35 P15[6], 36 P15[7], 37 VDDD0, 38 VSSD1, 39 VCCD0, 63 VCCA, 64 VSSA, 65 VDDA, 66 VSSD2, 86 VCCD1, 87 VSSD3, 88 VDDD1

## RS485_ISOLATED
designator U?, comment Isolated RS485 Transceiver. / With transformer driver for isloated supply. / Fits TI parts such as ISO53T (3.3V only, iMbps), ISO3086T (3.3V or 5V, 20 Mbps). / Footprint unproven.
footprint SO16L
pins: 1 D1, 2 D2, 3 GND1, 4 VCC1, 5 R, 6 ~{RE}, 7 DE, 8 D, 9 GND2B, 10 NC, 11 Y, 12 Z, 13 B, 14 A, 15 GND2A, 16 VCC2

## RS485_SP491
designator ?, comment RS485 transceiver
footprint SOIC-14
pins: 1 NC1, 2 R, 3 /RE, 4 DE, 5 D, 6 GND1, 7 GND2, 8 NC2, 9 Y, 10 Z, 11 B, 12 A, 13 NC3, 14 VCC

## RS485SOIC
designator ?, comment RS485 transceiver
footprint SO08
pins: 1 RO, 2 /RE, 3 DE, 4 DI, 5 GND, 6 A, 7 B, 8 VCC

## SC16IS750
designator IC?, comment SPI/I2C/IrDA to UART
footprint QFN-24
pins: 1 RESET, 2 XTAL1, 3 XTAL2, 4 VDD, 5 I2C-/SPI, 6 A0-/CS, 7 A1-SI, 8 NC-SO, 9 SCL-SCLK, 10 SDA-VSS, 11 /IRQ, 12 GPIO0, 13 GPIO1, 14 GPIO2, 15 GPIO3, 16 VSS, 17 GPIO4-/DSR, 18 GPIO5-/DTR, 19 GPIO6-/CD, 20 GPIO7-/RI, 21 /RTS, 22 /CTS, 23 TX, 24 RX

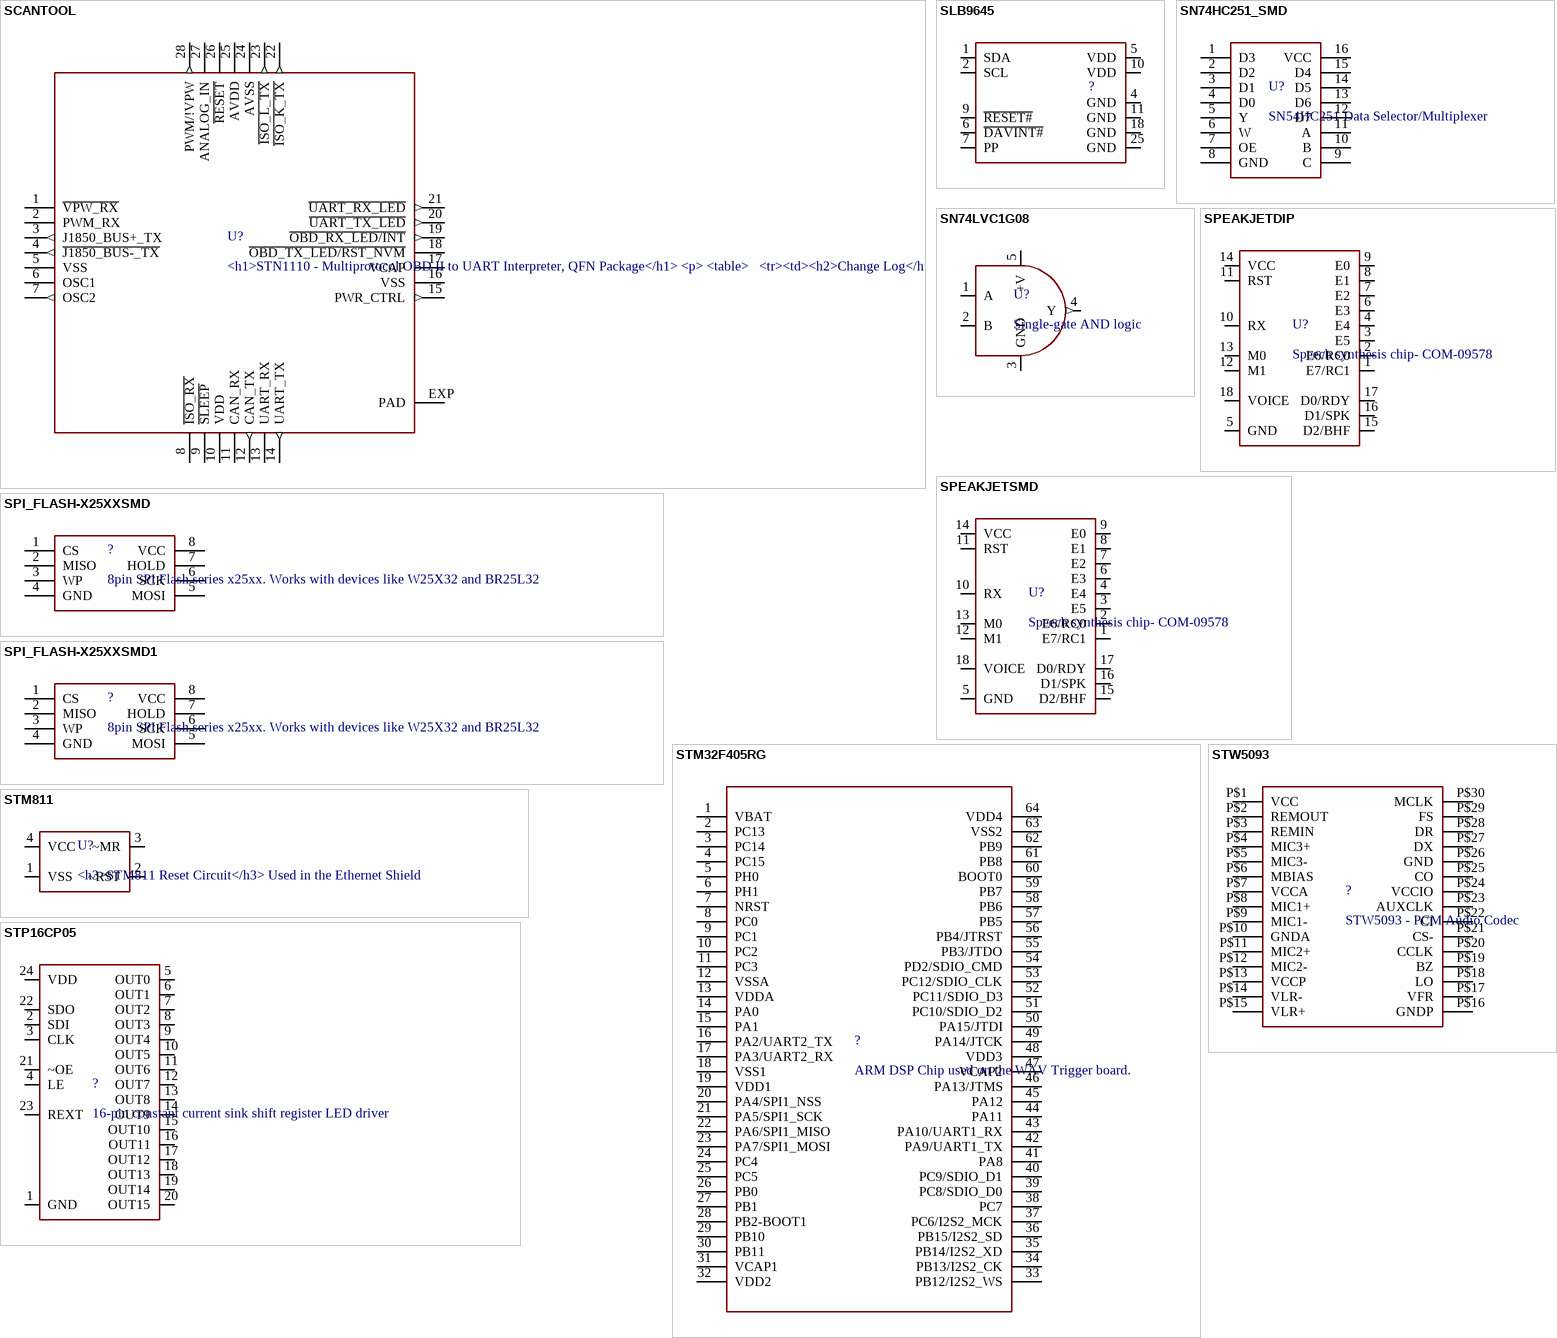
[diagram p18: symbols SCANTOOL to STW5093]

## SCANTOOL
designator U?, comment <h1>STN1110 - Multiprotocol OBD II to UART Interpreter, QFN Package</h1> / <p> / <table> / <tr><td><h2>Change Log</h2></td></tr> / <tr> / <th>Date</th><th>Author</th><th>Change</th> / <tr> / <td>Aug 23, 2010</td><td>vit@scantool.net</td><td>Created device</td> / </tr> / </tr> / </table> / </p> / <br />
footprint _STN_SCANTOOL_QFN-28-S
pins: 1 ~{VPW_RX}, 2 PWM_RX, 3 J1850_BUS+_TX (out), 4 ~{J1850_BUS-_TX} (out), 5 VSS (power), 6 OSC1, 7 OSC2 (out), 8 ~{ISO_RX}, 9 ~{SLEEP}, 10 VDD (power), 11 CAN_RX, 12 CAN_TX (out), 13 UART_RX, 14 UART_TX (out), 15 PWR_CTRL (out), 16 VSS (power), 17 VCAP (power), 18 ~{OBD_TX_LED/RST_NVM}, 19 ~{OBD_RX_LED/INT} (out), 20 ~{UART_TX_LED} (out), 21 ~{UART_RX_LED} (out), 22 ~{ISO_K_TX} (out), 23 ~{ISO_L_TX} (out), 24 AVSS (power), 25 AVDD (power), 26 ~{RESET}, 27 ANALOG_IN, 28 PWM/!VPW (out), EXP PAD

## SLB9645
designator ?
PROD_ID: IC-XXXX
footprint TSSOP28
pins: 1 SDA, 2 SCL, 4 GND, 5 VDD, 6 ~{DAVINT#}, 7 PP, 9 ~{RESET#}, 10 VDD, 11 GND, 18 GND, 25 GND

## SN74HC251_SMD
designator U?, comment SN54HC251 Data Selector/Multiplexer
footprint SO016
pins: 1 D3, 2 D2, 3 D1, 4 D0, 5 Y, 6 W, 7 OE, 8 GND, 9 C, 10 B, 11 A, 12 D7, 13 D6, 14 D5, 15 D4, 16 VCC

## SN74LVC1G08
designator U?, comment Single-gate AND logic
PROD_ID: 10841
footprint SOT23-5
pins: 1 A, 2 B, 3 GND (power), 4 Y (out), 5 +V (power)

## SPEAKJETDIP
designator U?, comment Speech synthesis chip- COM-09578
footprint DIL18
pins: 1 E7/RC1, 2 E6/RC0, 3 E5, 4 E4, 5 GND, 6 E3, 7 E2, 8 E1, 9 E0, 10 RX, 11 RST, 12 M1, 13 M0, 14 VCC, 15 D2/BHF, 16 D1/SPK, 17 D0/RDY, 18 VOICE

## SPEAKJETSMD
designator U?, comment Speech synthesis chip- COM-09578
footprint SOIC-18
pins: 1 E7/RC1, 2 E6/RC0, 3 E5, 4 E4, 5 GND, 6 E3, 7 E2, 8 E1, 9 E0, 10 RX, 11 RST, 12 M1, 13 M0, 14 VCC, 15 D2/BHF, 16 D1/SPK, 17 D0/RDY, 18 VOICE

## SPI_FLASH-X25XXSMD
designator ?, comment 8pin SPI Flash series x25xx. Works with devices like W25X32 and BR25L32
footprint SO08
pins: 1 CS, 2 MISO, 3 WP, 4 GND, 5 MOSI, 6 SCK, 7 HOLD, 8 VCC

## SPI_FLASH-X25XXSMD1
designator ?, comment 8pin SPI Flash series x25xx. Works with devices like W25X32 and BR25L32
PROD_ID: IC-09109
footprint SO08-EIAJ
pins: 1 CS, 2 MISO, 3 WP, 4 GND, 5 MOSI, 6 SCK, 7 HOLD, 8 VCC

## STM32F405RG
designator ?, comment ARM DSP Chip used on the WAV Trigger board.
footprint TQFP64
pins: 1 VBAT, 2 PC13, 3 PC14, 4 PC15, 5 PH0, 6 PH1, 7 NRST, 8 PC0, 9 PC1, 10 PC2, 11 PC3, 12 VSSA, 13 VDDA, 14 PA0, 15 PA1, 16 PA2/UART2_TX, 17 PA3/UART2_RX, 18 VSS1, 19 VDD1, 20 PA4/SPI1_NSS, 21 PA5/SPI1_SCK, 22 PA6/SPI1_MISO, 23 PA7/SPI1_MOSI, 24 PC4, 25 PC5, 26 PB0, 27 PB1, 28 PB2-BOOT1, 29 PB10, 30 PB11, 31 VCAP1, 32 VDD2, 33 PB12/I2S2_WS, 34 PB13/I2S2_CK, 35 PB14/I2S2_XD, 36 PB15/I2S2_SD, 37 PC6/I2S2_MCK, 38 PC7, 39 PC8/SDIO_D0, 40 PC9/SDIO_D1, 41 PA8, 42 PA9/UART1_TX, 43 PA10/UART1_RX, 44 PA11, 45 PA12, 46 PA13/JTMS, 47 VCAP2, 48 VDD3, 49 PA14/JTCK, 50 PA15/JTDI, 51 PC10/SDIO_D2, 52 PC11/SDIO_D3, 53 PC12/SDIO_CLK, 54 PD2/SDIO_CMD, 55 PB3/JTDO, 56 PB4/JTRST, 57 PB5, 58 PB6, 59 PB7, 60 BOOT0, 61 PB8, 62 PB9, 63 VSS2, 64 VDD4

## STM811
designator U?, comment <h3>STM811 Reset Circuit</h3> / Used in the Ethernet Shield
footprint SOT143
pins: 1 VSS, 2 ~RST, 3 ~MR, 4 VCC

## STP16CP05
designator ?, comment 16-pin constant current sink shift register LED driver
footprint SO-24DW
pins: 1 GND, 2 SDI, 3 CLK, 4 LE, 5 OUT0, 6 OUT1, 7 OUT2, 8 OUT3, 9 OUT4, 10 OUT5, 11 OUT6, 12 OUT7, 13 OUT8, 14 OUT9, 15 OUT10, 16 OUT11, 17 OUT12, 18 OUT13, 19 OUT14, 20 OUT15, 21 ~OE, 22 SDO, 23 REXT, 24 VDD

## STW5093
designator ?, comment STW5093 - PCM Audio Codec
footprint TSSOP30
pins: P$1 VCC, P$2 REMOUT, P$3 REMIN, P$4 MIC3+, P$5 MIC3-, P$6 MBIAS, P$7 VCCA, P$8 MIC1+, P$9 MIC1-, P$10 GNDA, P$11 MIC2+, P$12 MIC2-, P$13 VCCP, P$14 VLR-, P$15 VLR+, P$16 GNDP, P$17 VFR, P$18 LO, P$19 BZ, P$20 CCLK, P$21 CS-, P$22 CI, P$23 AUXCLK, P$24 VCCIO, P$25 CO, P$26 GND, P$27 DX, P$28 DR, P$29 FS, P$30 MCLK

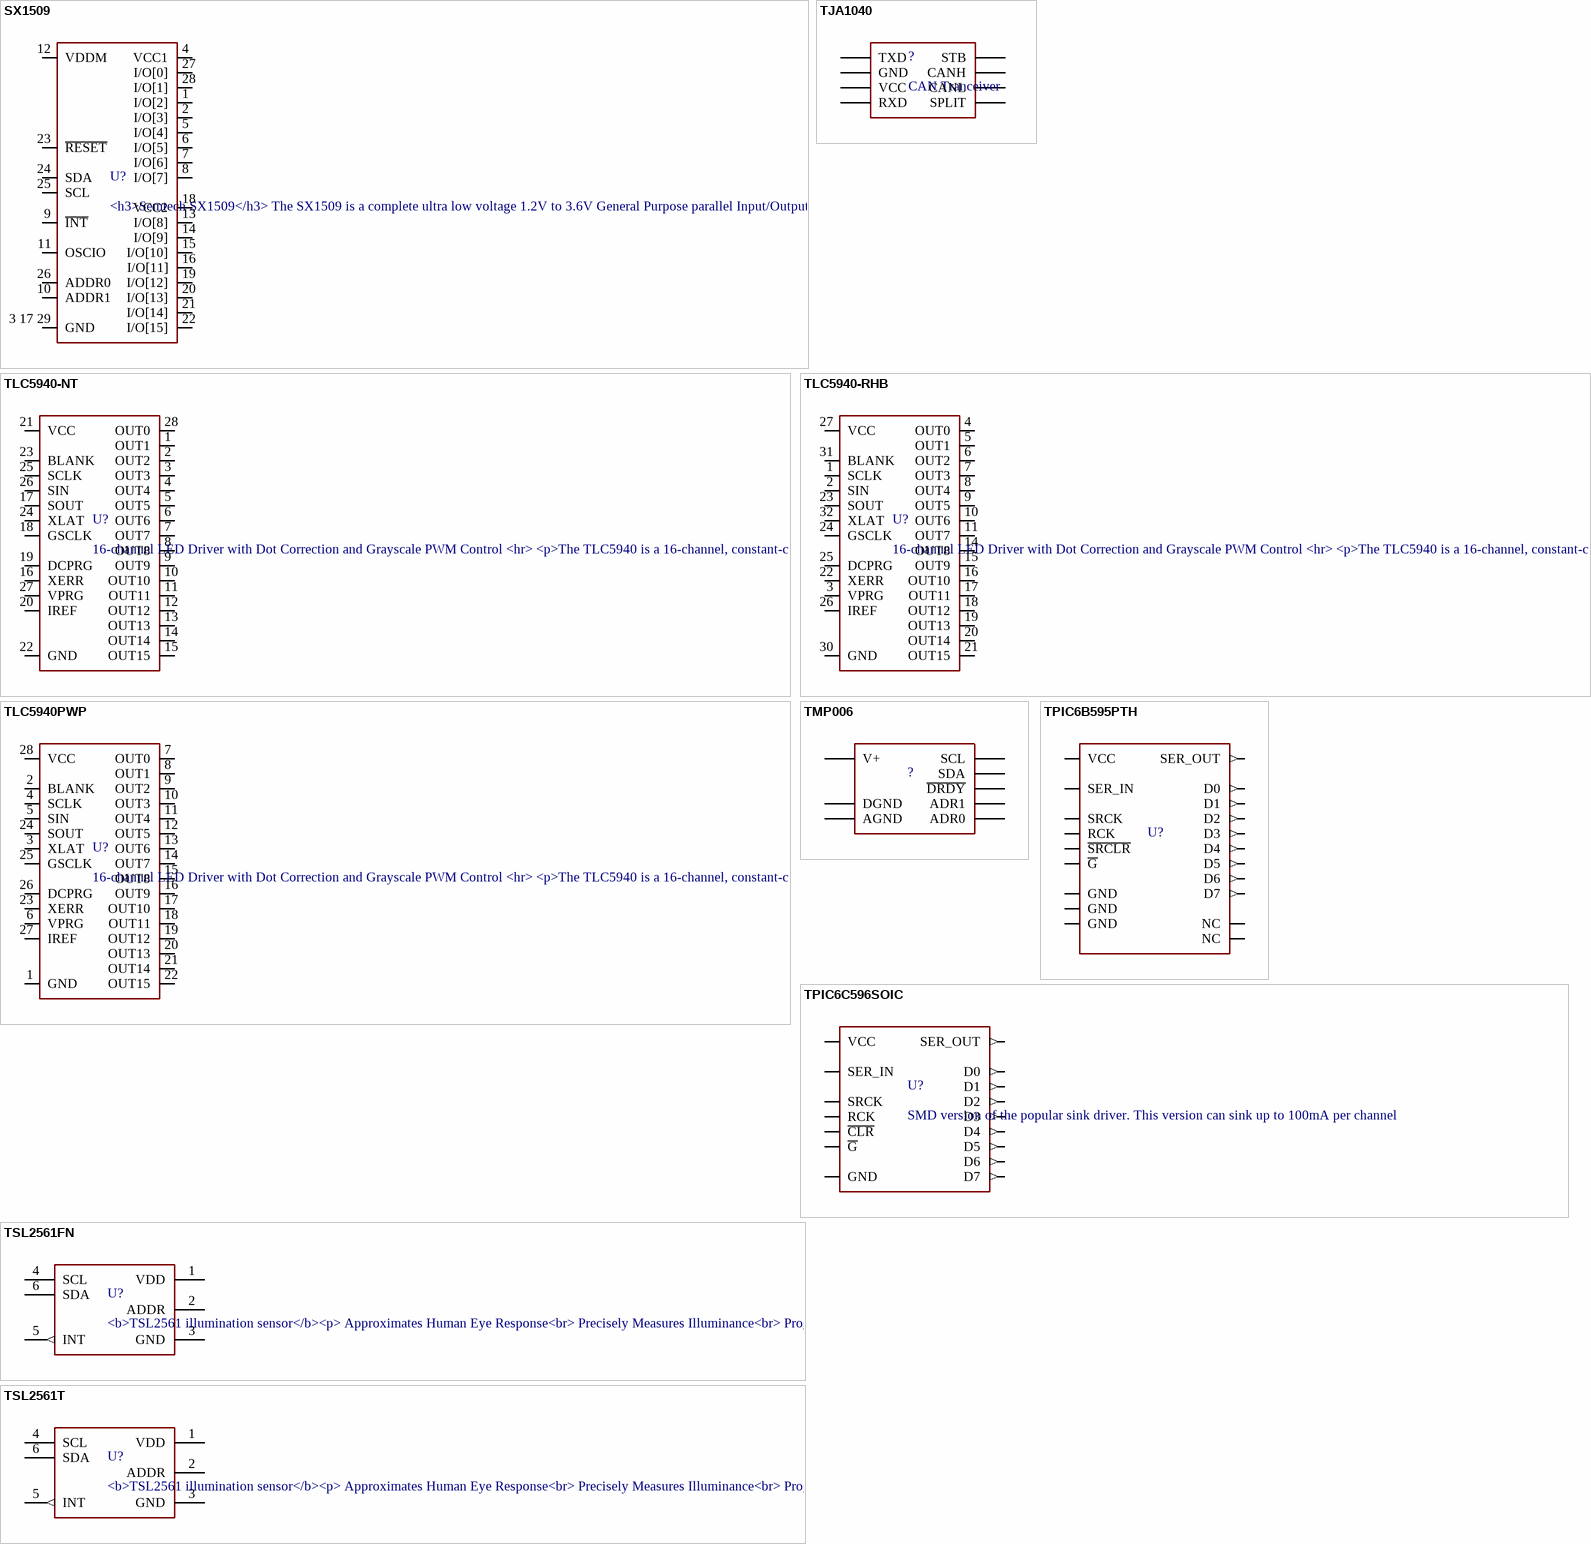
[diagram p19: symbols SX1509 to TSL2561T]

## SX1509
designator U?, comment <h3>Semtech SX1509</h3> / The SX1509 is a complete ultra low voltage 1.2V to 3.6V General Purpose parallel Input/Output (GPIO) expanders ideal for low power handheld battery powered equipment. This version comes in a 16-channel configuration and allows easy serial expansion of I/O through a standard 400kHz I2C interface. GPIO devices can provide additional control and monitoring when the microcontroller or chipset has insufficient I/O ports, or in systems where serial communication and control from a remote location is advantageous.
PROD_ID: IC-11311
footprint QFN-28
pins: 1 I/O[2], 2 I/O[3], 3 17 29 GND, 4 VCC1, 5 I/O[4], 6 I/O[5], 7 I/O[6], 8 I/O[7], 9 ~{INT}, 10 ADDR1, 11 OSCIO, 12 VDDM, 13 I/O[8], 14 I/O[9], 15 I/O[10], 16 I/O[11], 18 VCC2, 19 I/O[12], 20 I/O[13], 21 I/O[14], 22 I/O[15], 23 ~{RESET}, 24 SDA, 25 SCL, 26 ADDR0, 27 I/O[0], 28 I/O[1]

## TJA1040
designator ?, comment CAN Tranceiver
footprint SO08
pins: 1 TXD, 2 GND, 3 VCC, 4 RXD, 5 SPLIT, 6 CANL, 7 CANH, 8 STB

## TLC5940-NT
designator U?, comment 16-channel LED Driver with Dot Correction and Grayscale PWM Control / <hr> / <p>The TLC5940 is a 16-channel, constant-current sink LED driver. Each channel has an individually adjustable 4096-step grayscale PWM brightness control and a 64-step, constant-current sink (dot correction). The dot correction adjusts the brightness variations between LED channels and other LED drivers. The dot correction data is stored in an integrated EEPROM. Both grayscale control and dot correction are accessible via a serial interface. A single external resistor sets the maximum current value of all 16 channels.</p> / <p><b>Packages:</b> / <ul><li>28-pin HTSSOP / <li>32-pin 5x5mm QFN / <li>28-pin DIP</ul></p>
footprint DIL28-3
pins: 1 OUT1, 2 OUT2, 3 OUT3, 4 OUT4, 5 OUT5, 6 OUT6, 7 OUT7, 8 OUT8, 9 OUT9, 10 OUT10, 11 OUT11, 12 OUT12, 13 OUT13, 14 OUT14, 15 OUT15, 16 XERR, 17 SOUT, 18 GSCLK, 19 DCPRG, 20 IREF, 21 VCC, 22 GND, 23 BLANK, 24 XLAT, 25 SCLK, 26 SIN, 27 VPRG, 28 OUT0

## TLC5940-RHB
designator U?, comment 16-channel LED Driver with Dot Correction and Grayscale PWM Control / <hr> / <p>The TLC5940 is a 16-channel, constant-current sink LED driver. Each channel has an individually adjustable 4096-step grayscale PWM brightness control and a 64-step, constant-current sink (dot correction). The dot correction adjusts the brightness variations between LED channels and other LED drivers. The dot correction data is stored in an integrated EEPROM. Both grayscale control and dot correction are accessible via a serial interface. A single external resistor sets the maximum current value of all 16 channels.</p> / <p><b>Packages:</b> / <ul><li>28-pin HTSSOP / <li>32-pin 5x5mm QFN / <li>28-pin DIP</ul></p>
PROD_ID: IC-10398
footprint QFN-32
pins: 1 SCLK, 2 SIN, 3 VPRG, 4 OUT0, 5 OUT1, 6 OUT2, 7 OUT3, 8 OUT4, 9 OUT5, 10 OUT6, 11 OUT7, 14 OUT8, 15 OUT9, 16 OUT10, 17 OUT11, 18 OUT12, 19 OUT13, 20 OUT14, 21 OUT15, 22 XERR, 23 SOUT, 24 GSCLK, 25 DCPRG, 26 IREF, 27 VCC, 30 GND, 31 BLANK, 32 XLAT

## TLC5940PWP
designator U?, comment 16-channel LED Driver with Dot Correction and Grayscale PWM Control / <hr> / <p>The TLC5940 is a 16-channel, constant-current sink LED driver. Each channel has an individually adjustable 4096-step grayscale PWM brightness control and a 64-step, constant-current sink (dot correction). The dot correction adjusts the brightness variations between LED channels and other LED drivers. The dot correction data is stored in an integrated EEPROM. Both grayscale control and dot correction are accessible via a serial interface. A single external resistor sets the maximum current value of all 16 channels.</p> / <p><b>Packages:</b> / <ul><li>28-pin HTSSOP / <li>32-pin 5x5mm QFN / <li>28-pin DIP</ul></p>
footprint TSSOP28-GROUNDPAD
pins: 1 GND, 2 BLANK, 3 XLAT, 4 SCLK, 5 SIN, 6 VPRG, 7 OUT0, 8 OUT1, 9 OUT2, 10 OUT3, 11 OUT4, 12 OUT5, 13 OUT6, 14 OUT7, 15 OUT8, 16 OUT9, 17 OUT10, 18 OUT11, 19 OUT12, 20 OUT13, 21 OUT14, 22 OUT15, 23 XERR, 24 SOUT, 25 GSCLK, 26 DCPRG, 27 IREF, 28 VCC

## TMP006
designator ?
footprint BGA8DS
pins: A1 DGND, A2 AGND, A3 V+, B1 ADR1, B3 SCL, C1 ADR0, C2 ~{DRDY}, C3 SDA

## TPIC6B595PTH
designator U?
footprint DIL20
pins: 1 NC, 2 VCC (power), 3 SER_IN, 4 D0 (out), 5 D1 (out), 6 D2 (out), 7 D3 (out), 8 ~{SRCLR}, 9 ~{G}, 10 GND (power), 11 GND (power), 12 RCK, 13 SRCK, 14 D4 (out), 15 D5 (out), 16 D6 (out), 17 D7 (out), 18 SER_OUT (out), 19 GND (power), 20 NC

## TPIC6C596SOIC
designator U?, comment SMD version of the popular sink driver. This version can sink up to 100mA per channel
PROD_ID: IC-12522
footprint SO016
pins: 1 VCC (power), 2 SER_IN, 3 D0 (out), 4 D1 (out), 5 D2 (out), 6 D3 (out), 7 ~{CLR}, 8 ~{G}, 9 SER_OUT (out), 10 RCK, 11 D4 (out), 12 D5 (out), 13 D6 (out), 14 D7 (out), 15 SRCK, 16 GND (power)

## TSL2561FN
designator U?, comment <b>TSL2561 illumination sensor</b><p> / Approximates Human Eye Response<br> / Precisely Measures Illuminance<br> / Programmable Interrupt Function with / User-Defined Upper and Lower Threshold<br> / 400 KHz I2C interface<br> / Programmable Analog Gain and Integration / Time Supporting 1,000,000-to-1 Dynamic / Range<br> / Automatically Rejects 50/60-Hz Lighting / Ripple<br> / Low Active Power (0.75 mW Typical) with / Power Down Mode<br> / RoHS Compliant<p> / The TSL2561 is a light-to-digital converter that transform light intensity to a digital signal output via I2C interface. The device combines one broadband / photodiode (visible plus infrared) and one infrared-responding photodiode on a single CMOS integrated circuit / capable of providing a near-photopic response over an effective 20-bit dynamic range (16-bit resolution). Two / integrating ADCs convert the photodiode currents to a digital output that represents the irradiance measured / on each channel. This digital output can be input to a microprocessor where illuminance (ambient light level) / in lux is derived using an empirical formula to approximate the human eye response. The TSL2561 device supports a traditional level style interrupt that / remains asserted until the firmware clears it.
PROD_ID: IC-11791
footprint FN-6
pins: 1 VDD (power), 2 ADDR, 3 GND (power), 4 SCL, 5 INT (out), 6 SDA

## TSL2561T
designator U?, comment <b>TSL2561 illumination sensor</b><p> / Approximates Human Eye Response<br> / Precisely Measures Illuminance<br> / Programmable Interrupt Function with / User-Defined Upper and Lower Threshold<br> / 400 KHz I2C interface<br> / Programmable Analog Gain and Integration / Time Supporting 1,000,000-to-1 Dynamic / Range<br> / Automatically Rejects 50/60-Hz Lighting / Ripple<br> / Low Active Power (0.75 mW Typical) with / Power Down Mode<br> / RoHS Compliant<p> / The TSL2561 is a light-to-digital converter that transform light intensity to a digital signal output via I2C interface. The device combines one broadband / photodiode (visible plus infrared) and one infrared-responding photodiode on a single CMOS integrated circuit / capable of providing a near-photopic response over an effective 20-bit dynamic range (16-bit resolution). Two / integrating ADCs convert the photodiode currents to a digital output that represents the irradiance measured / on each channel. This digital output can be input to a microprocessor where illuminance (ambient light level) / in lux is derived using an empirical formula to approximate the human eye response. The TSL2561 device supports a traditional level style interrupt that / remains asserted until the firmware clears it.
footprint TMB-6
pins: 1 VDD (power), 2 ADDR, 3 GND (power), 4 SCL, 5 INT (out), 6 SDA

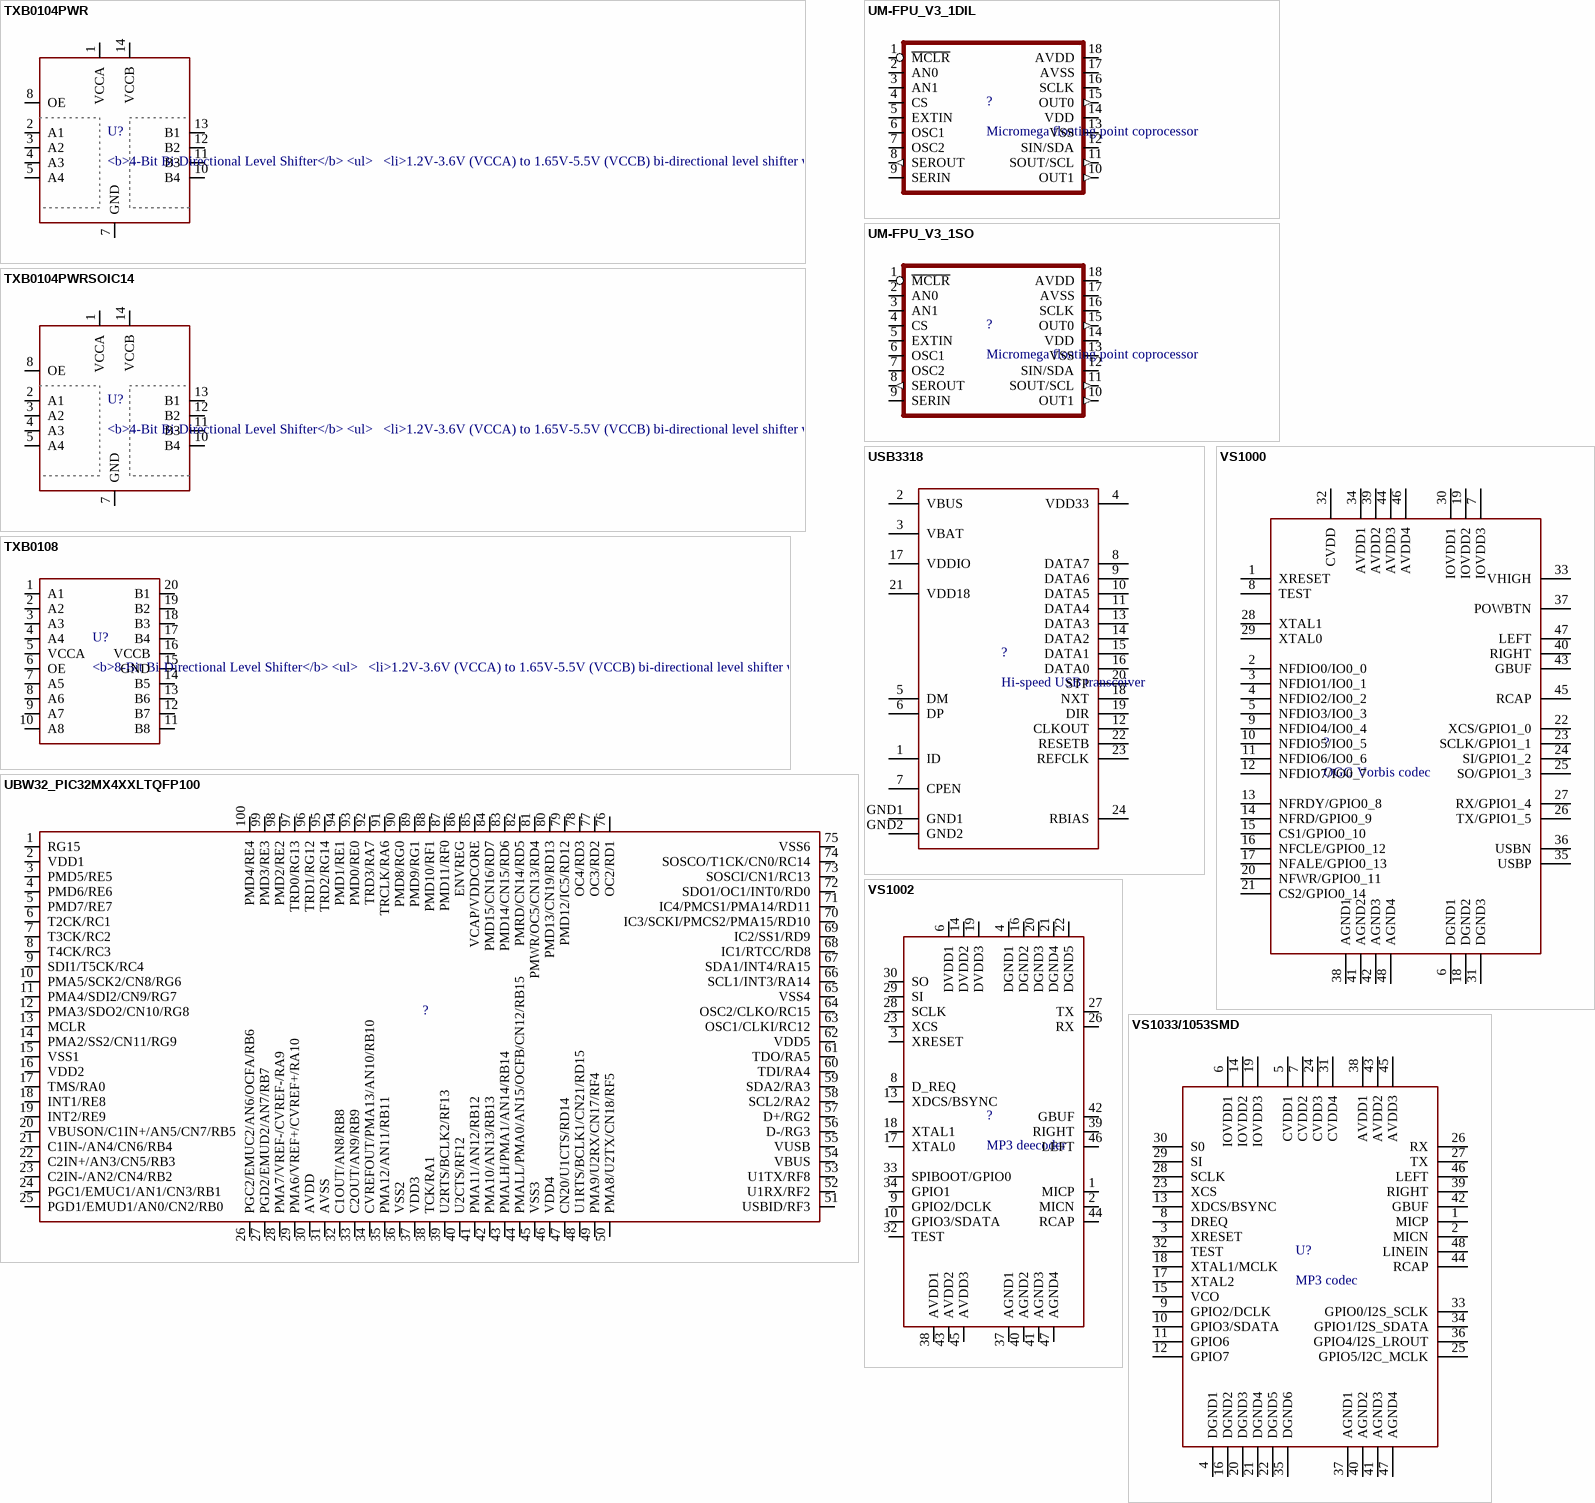
[diagram p20: symbols TXB0104PWR to VS1033/1053SMD]

## TXB0104PWR
designator U?, comment <b>4-Bit Bi-Directional Level Shifter</b> / <ul> / <li>1.2V-3.6V (VCCA) to 1.65V-5.5V (VCCB) bi-directional level shifter with auto direction sensing.</li> / <li>Max data rate - VCCA 1.8V:  20Mbps (50ns), VCCA 3.3V: 100Mbps (10ns)</li> / </ul> / <p>Digikey: 296-21929-1-ND (TSSOP)</p> / <p>IC-11329</p>
footprint TSSOP14
pins: 1 VCCA, 2 A1, 3 A2, 4 A3, 5 A4, 7 GND, 8 OE, 10 B4, 11 B3, 12 B2, 13 B1, 14 VCCB

## TXB0104PWRSOIC14
designator U?, comment <b>4-Bit Bi-Directional Level Shifter</b> / <ul> / <li>1.2V-3.6V (VCCA) to 1.65V-5.5V (VCCB) bi-directional level shifter with auto direction sensing.</li> / <li>Max data rate - VCCA 1.8V:  20Mbps (50ns), VCCA 3.3V: 100Mbps (10ns)</li> / </ul> / <p>Digikey: 296-21929-1-ND (TSSOP)</p> / <p>IC-11329</p>
PROD_ID: IC-11329
footprint SO14
pins: 1 VCCA, 2 A1, 3 A2, 4 A3, 5 A4, 7 GND, 8 OE, 10 B4, 11 B3, 12 B2, 13 B1, 14 VCCB

## TXB0108
designator U?, comment <b>8-Bit Bi-Directional Level Shifter</b> / <ul> / <li>1.2V-3.6V (VCCA) to 1.65V-5.5V (VCCB) bi-directional level shifter with auto direction sensing.</li> / <li>Max data rate - VCCA 1.2V:  20Mbps (50ns), VCCA 3.3V: 100Mbps (10ns)</li> / </ul> / <p>Digikey: 296-27217-1-ND (20-UFDFN)</p> / <p>IC-12292</p>
PROD_ID: IC-12292
footprint UFDFN-20
pins: 1 A1, 2 A2, 3 A3, 4 A4, 5 VCCA, 6 OE, 7 A5, 8 A6, 9 A7, 10 A8, 11 B8, 12 B7, 13 B6, 14 B5, 15 GND, 16 VCCB, 17 B4, 18 B3, 19 B2, 20 B1

## UBW32_PIC32MX4XXLTQFP100
designator ?
footprint UBW32_TQFP100
pins: 1 RG15, 2 VDD1, 3 PMD5/RE5, 4 PMD6/RE6, 5 PMD7/RE7, 6 T2CK/RC1, 7 T3CK/RC2, 8 T4CK/RC3, 9 SDI1/T5CK/RC4, 10 PMA5/SCK2/CN8/RG6, 11 PMA4/SDI2/CN9/RG7, 12 PMA3/SDO2/CN10/RG8, 13 MCLR, 14 PMA2/SS2/CN11/RG9, 15 VSS1, 16 VDD2, 17 TMS/RA0, 18 INT1/RE8, 19 INT2/RE9, 20 VBUSON/C1IN+/AN5/CN7/RB5, 21 C1IN-/AN4/CN6/RB4, 22 C2IN+/AN3/CN5/RB3, 23 C2IN-/AN2/CN4/RB2, 24 PGC1/EMUC1/AN1/CN3/RB1, 25 PGD1/EMUD1/AN0/CN2/RB0, 26 PGC2/EMUC2/AN6/OCFA/RB6, 27 PGD2/EMUD2/AN7/RB7, 28 PMA7/VREF-/CVREF-/RA9, 29 PMA6/VREF+/CVREF+/RA10, 30 AVDD, 31 AVSS, 32 C1OUT/AN8/RB8, 33 C2OUT/AN9/RB9, 34 CVREFOUT/PMA13/AN10/RB10, 35 PMA12/AN11/RB11, 36 VSS2, 37 VDD3, 38 TCK/RA1, 39 U2RTS/BCLK2/RF13, 40 U2CTS/RF12, 41 PMA11/AN12/RB12, 42 PMA10/AN13/RB13, 43 PMALH/PMA1/AN14/RB14, 44 PMALL/PMA0/AN15/OCFB/CN12/RB15, 45 VSS3, 46 VDD4, 47 CN20/U1CTS/RD14, 48 U1RTS/BCLK1/CN21/RD15, 49 PMA9/U2RX/CN17/RF4, 50 PMA8/U2TX/CN18/RF5, 51 USBID/RF3, 52 U1RX/RF2, 53 U1TX/RF8, 54 VBUS, 55 VUSB, 56 D-/RG3, 57 D+/RG2, 58 SCL2/RA2, 59 SDA2/RA3, 60 TDI/RA4, 61 TDO/RA5, 62 VDD5, 63 OSC1/CLKI/RC12, 64 OSC2/CLKO/RC15, 65 VSS4, 66 SCL1/INT3/RA14, 67 SDA1/INT4/RA15, 68 IC1/RTCC/RD8, 69 IC2/SS1/RD9, 70 IC3/SCKI/PMCS2/PMA15/RD10, 71 IC4/PMCS1/PMA14/RD11, 72 SDO1/OC1/INT0/RD0, 73 SOSCI/CN1/RC13, 74 SOSCO/T1CK/CN0/RC14, 75 VSS6, 76 OC2/RD1, 77 OC3/RD2, 78 OC4/RD3, 79 PMD12/IC5/RD12, 80 PMD13/CN19/RD13, 81 PMWR/OC5/CN13/RD4, 82 PMRD/CN14/RD5, 83 PMD14/CN15/RD6, 84 PMD15/CN16/RD7, 85 VCAP/VDDCORE, 86 ENVREG, 87 PMD11/RF0, 88 PMD10/RF1, 89 PMD9/RG1, 90 PMD8/RG0, 91 TRCLK/RA6, 92 TRD3/RA7, 93 PMD0/RE0, 94 PMD1/RE1, 95 TRD2/RG14, 96 TRD1/RG12, 97 TRD0/RG13, 98 PMD2/RE2, 99 PMD3/RE3, 100 PMD4/RE4

## UM-FPU_V3_1DIL
designator ?, comment Micromega floating point coprocessor
footprint DIL18
pins: 1 ~{MCLR}, 2 AN0, 3 AN1, 4 CS, 5 EXTIN, 6 OSC1, 7 OSC2, 8 SEROUT (out), 9 SERIN, 10 OUT1 (out), 11 SOUT/SCL (out), 12 SIN/SDA, 13 VSS (power), 14 VDD (power), 15 OUT0 (out), 16 SCLK, 17 AVSS (power), 18 AVDD (power)

## UM-FPU_V3_1SO
designator ?, comment Micromega floating point coprocessor
footprint SOIC18-W
pins: 1 ~{MCLR}, 2 AN0, 3 AN1, 4 CS, 5 EXTIN, 6 OSC1, 7 OSC2, 8 SEROUT (out), 9 SERIN, 10 OUT1 (out), 11 SOUT/SCL (out), 12 SIN/SDA, 13 VSS (power), 14 VDD (power), 15 OUT0 (out), 16 SCLK, 17 AVSS (power), 18 AVDD (power)

## USB3318
designator ?, comment Hi-speed USB transceiver
footprint QFN-24-USB
pins: 1 ID, 2 VBUS, 3 VBAT, 4 VDD33, 5 DM, 6 DP, 7 CPEN, 8 DATA7, 9 DATA6, 10 DATA5, 11 DATA4, 12 CLKOUT, 13 DATA3, 14 DATA2, 15 DATA1, 16 DATA0, 17 VDDIO, 18 NXT, 19 DIR, 20 STP, 21 VDD18, 22 RESETB, 23 REFCLK, 24 RBIAS, GND1, GND2

## VS1000
designator ?, comment OGG Vorbis codec
footprint LQFP-48
pins: 1 XRESET, 2 NFDIO0/IO0_0, 3 NFDIO1/IO0_1, 4 NFDIO2/IO0_2, 5 NFDIO3/IO0_3, 6 DGND1, 7 IOVDD3, 8 TEST, 9 NFDIO4/IO0_4, 10 NFDIO5/IO0_5, 11 NFDIO6/IO0_6, 12 NFDIO7/IO0_7, 13 NFRDY/GPIO0_8, 14 NFRD/GPIO0_9, 15 CS1/GPIO0_10, 16 NFCLE/GPIO0_12, 17 NFALE/GPIO0_13, 18 DGND2, 19 IOVDD2, 20 NFWR/GPIO0_11, 21 CS2/GPIO0_14, 22 XCS/GPIO1_0, 23 SCLK/GPIO1_1, 24 SI/GPIO1_2, 25 SO/GPIO1_3, 26 TX/GPIO1_5, 27 RX/GPIO1_4, 28 XTAL1, 29 XTAL0, 30 IOVDD1, 31 DGND3, 32 CVDD, 33 VHIGH, 34 AVDD1, 35 USBP, 36 USBN, 37 POWBTN, 38 AGND1, 39 AVDD2, 40 RIGHT, 41 AGND2, 42 AGND3, 43 GBUF, 44 AVDD3, 45 RCAP, 46 AVDD4, 47 LEFT, 48 AGND4

## VS1002
designator ?, comment MP3 deecoder
footprint LQFP-48
pins: 1 MICP, 2 MICN, 3 XRESET, 4 DGND1 (power), 6 DVDD1 (power), 8 D_REQ, 9 GPIO2/DCLK, 10 GPIO3/SDATA, 13 XDCS/BSYNC, 14 DVDD2 (power), 16 DGND2, 17 XTAL0, 18 XTAL1, 19 DVDD3 (power), 20 DGND3, 21 DGND4, 22 DGND5, 23 XCS, 26 RX, 27 TX, 28 SCLK, 29 SI, 30 SO, 32 TEST, 33 SPIBOOT/GPIO0, 34 GPIO1, 37 AGND1, 38 AVDD1 (power), 39 RIGHT, 40 AGND2, 41 AGND3, 42 GBUF, 43 AVDD2 (power), 44 RCAP, 45 AVDD3 (power), 46 LEFT, 47 AGND4

## VS1033/1053SMD
designator U?, comment MP3 codec
PROD_ID: IC-08983
footprint LQFP-48
pins: 1 MICP, 2 MICN, 3 XRESET, 4 DGND1, 5 CVDD1, 6 IOVDD1, 7 CVDD2, 8 DREQ, 9 GPIO2/DCLK, 10 GPIO3/SDATA, 11 GPIO6, 12 GPIO7, 13 XDCS/BSYNC, 14 IOVDD2, 15 VCO, 16 DGND2, 17 XTAL2, 18 XTAL1/MCLK, 19 IOVDD3, 20 DGND3, 21 DGND4, 22 DGND5, 23 XCS, 24 CVDD3, 25 GPIO5/I2C_MCLK, 26 RX, 27 TX, 28 SCLK, 29 SI, 30 S0, 31 CVDD4, 32 TEST, 33 GPIO0/I2S_SCLK, 34 GPIO1/I2S_SDATA, 35 DGND6, 36 GPIO4/I2S_LROUT, 37 AGND1, 38 AVDD1, 39 RIGHT, 40 AGND2, 41 AGND3, 42 GBUF, 43 AVDD2, 44 RCAP, 45 AVDD3, 46 LEFT, 47 AGND4, 48 LINEIN

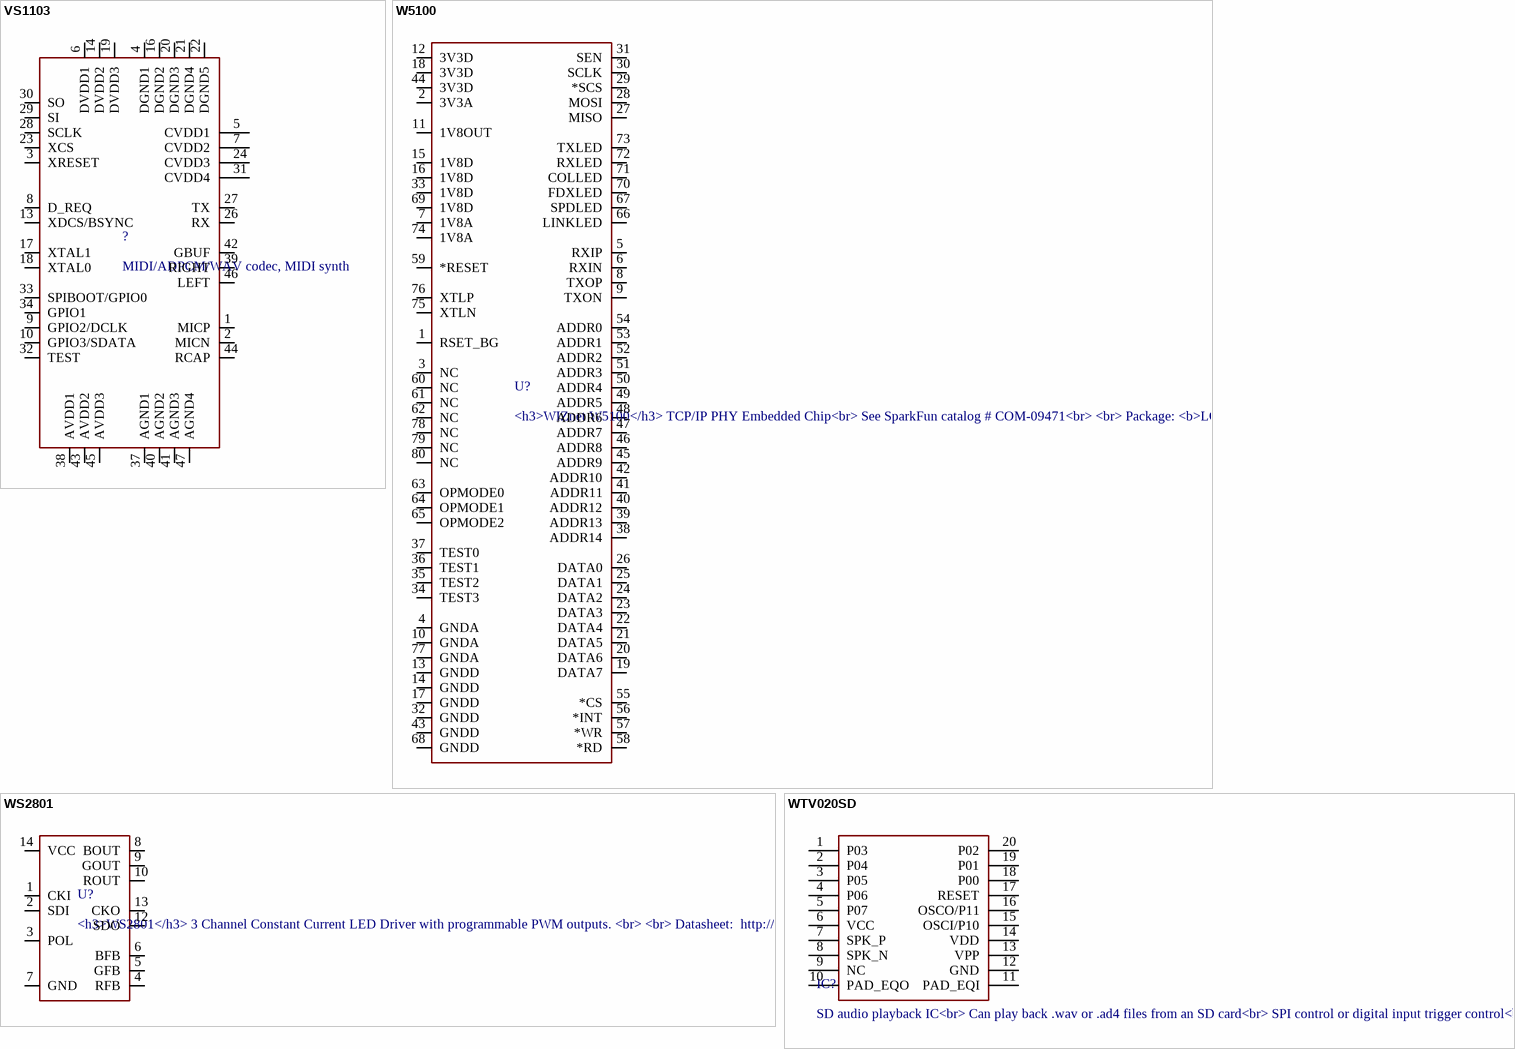
[diagram p21: symbols VS1103 to WTV020SD]

## VS1103
designator ?, comment MIDI/ADPCM/WAV codec, MIDI synth
footprint LQFP-48
pins: 1 MICP, 2 MICN, 3 XRESET, 4 DGND1 (power), 5 CVDD1, 6 DVDD1 (power), 7 CVDD2, 8 D_REQ, 9 GPIO2/DCLK, 10 GPIO3/SDATA, 13 XDCS/BSYNC, 14 DVDD2 (power), 16 DGND2, 17 XTAL1, 18 XTAL0, 19 DVDD3 (power), 20 DGND3, 21 DGND4, 22 DGND5, 23 XCS, 24 CVDD3, 26 RX, 27 TX, 28 SCLK, 29 SI, 30 SO, 31 CVDD4, 32 TEST, 33 SPIBOOT/GPIO0, 34 GPIO1, 37 AGND1, 38 AVDD1 (power), 39 RIGHT, 40 AGND2, 41 AGND3, 42 GBUF, 43 AVDD2 (power), 44 RCAP, 45 AVDD3 (power), 46 LEFT, 47 AGND4

## W5100
designator U?, comment <h3>WIZnet W5100</h3> / TCP/IP PHY Embedded Chip<br> / See SparkFun catalog # COM-09471<br> / <br> / Package: <b>LQFP-80</b>,10x10mm,  0.4mm pitch
footprint LQFP-80
pins: 1 RSET_BG, 2 3V3A, 3 NC, 4 GNDA, 5 RXIP, 6 RXIN, 7 1V8A, 8 TXOP, 9 TXON, 10 GNDA, 11 1V8OUT, 12 3V3D, 13 GNDD, 14 GNDD, 15 1V8D, 16 1V8D, 17 GNDD, 18 3V3D, 19 DATA7, 20 DATA6, 21 DATA5, 22 DATA4, 23 DATA3, 24 DATA2, 25 DATA1, 26 DATA0, 27 MISO, 28 MOSI, 29 *SCS, 30 SCLK, 31 SEN, 32 GNDD, 33 1V8D, 34 TEST3, 35 TEST2, 36 TEST1, 37 TEST0, 38 ADDR14, 39 ADDR13, 40 ADDR12, 41 ADDR11, 42 ADDR10, 43 GNDD, 44 3V3D, 45 ADDR9, 46 ADDR8, 47 ADDR7, 48 ADDR6, 49 ADDR5, 50 ADDR4, 51 ADDR3, 52 ADDR2, 53 ADDR1, 54 ADDR0, 55 *CS, 56 *INT, 57 *WR, 58 *RD, 59 *RESET, 60 NC, 61 NC, 62 NC, 63 OPMODE0, 64 OPMODE1, 65 OPMODE2, 66 LINKLED, 67 SPDLED, 68 GNDD, 69 1V8D, 70 FDXLED, 71 COLLED, 72 RXLED, 73 TXLED, 74 1V8A, 75 XTLN, 76 XTLP, 77 GNDA, 78 NC, 79 NC, 80 NC

## WS2801
designator U?, comment <h3>WS2801</h3> / 3 Channel Constant Current LED Driver with programmable PWM outputs. / <br> / <br> / Datasheet:  http://www.sparkfun.com/datasheets/Components/LED/WS2801.pdf
footprint SOP-14
pins: 1 CKI, 2 SDI, 3 POL, 4 RFB, 5 GFB, 6 BFB, 7 GND, 8 BOUT, 9 GOUT, 10 ROUT, 12 SDO, 13 CKO, 14 VCC

## WTV020SD
designator IC?, comment SD audio playback IC<br> / Can play back .wav or .ad4 files from an SD card<br> / SPI control or digital input trigger control<br> / available in SSOP-20 or DIP-20
PROD_#: NA; SPARKLE_ID: 6000; SKU: NA
footprint SSOP_20
pins: 1 P03, 2 P04, 3 P05, 4 P06, 5 P07, 6 VCC, 7 SPK_P, 8 SPK_N, 9 NC, 10 PAD_EQO, 11 PAD_EQI, 12 GND, 13 VPP, 14 VDD, 15 OSCI/P10, 16 OSCO/P11, 17 RESET, 18 P00, 19 P01, 20 P02

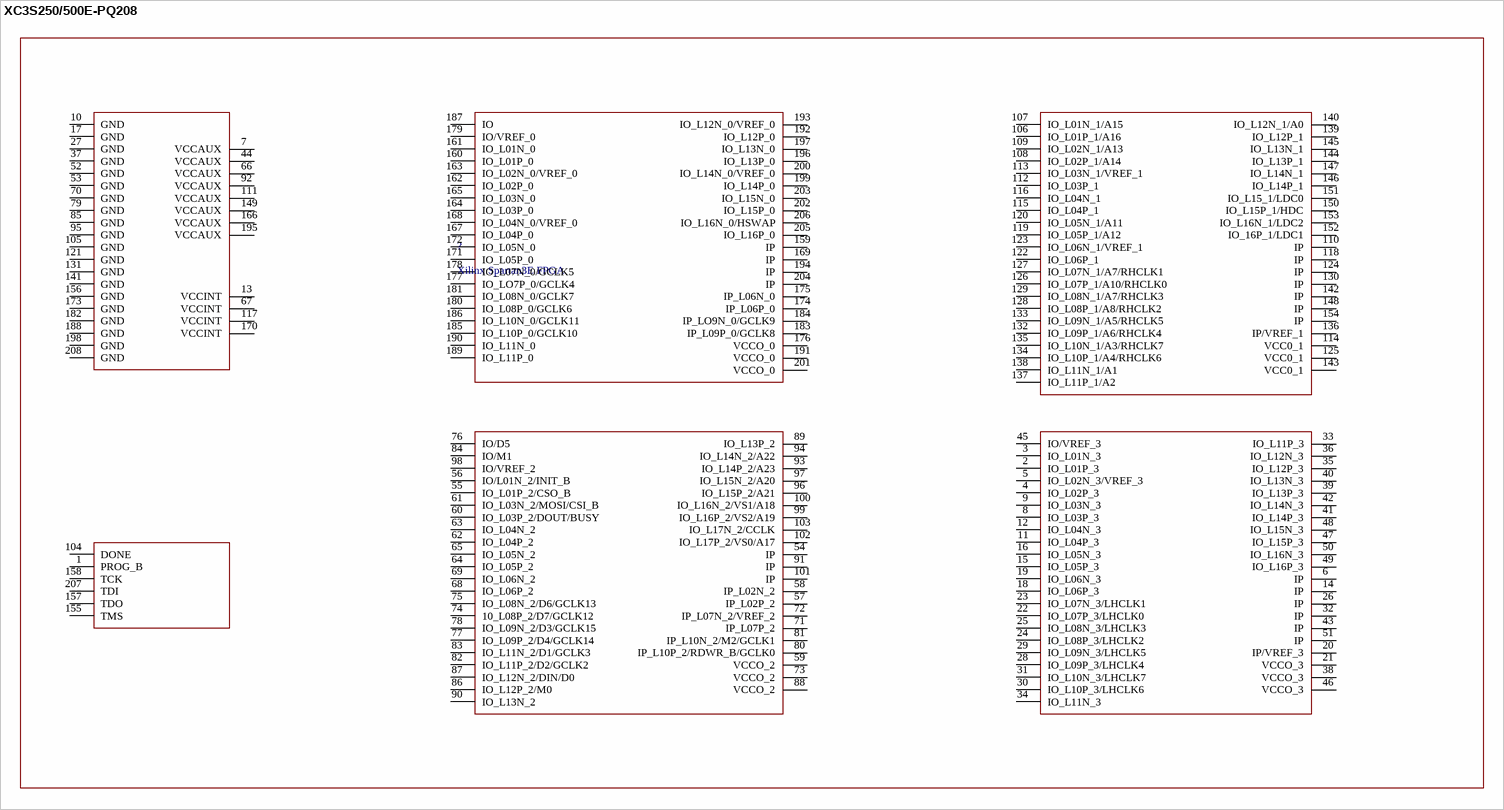
[diagram p22: symbol XC3S250/500E-PQ208]

## XC3S250/500E-PQ208
designator ?, comment Xilinx Spartan3E FPGA
footprint PQ208
pins: 1 PROG_B, 2 IO_L01P_3, 3 IO_L01N_3, 4 IO_L02P_3, 5 IO_L02N_3/VREF_3, 6 IP, 7 VCCAUX, 8 IO_L03P_3, 9 IO_L03N_3, 10 GND, 11 IO_L04P_3, 12 IO_L04N_3, 13 VCCINT, 14 IP, 15 IO_L05P_3, 16 IO_L05N_3, 17 GND, 18 IO_L06P_3, 19 IO_L06N_3, 20 IP/VREF_3, 21 VCCO_3, 22 IO_L07P_3/LHCLK0, 23 IO_L07N_3/LHCLK1, 24 IO_L08P_3/LHCLK2, 25 IO_L08N_3/LHCLK3, 26 IP, 27 GND, 28 IO_L09P_3/LHCLK4, 29 IO_L09N_3/LHCLK5, 30 IO_L10P_3/LHCLK6, 31 IO_L10N_3/LHCLK7, 32 IP, 33 IO_L11P_3, 34 IO_L11N_3, 35 IO_L12P_3, 36 IO_L12N_3, 37 GND, 38 VCCO_3, 39 IO_L13P_3, 40 IO_L13N_3, 41 IO_L14P_3, 42 IO_L14N_3, 43 IP, 44 VCCAUX, 45 IO/VREF_3, 46 VCCO_3, 47 IO_L15P_3, 48 IO_L15N_3, 49 IO_L16P_3, 50 IO_L16N_3, 51 IP, 52 GND, 53 GND, 54 IP, 55 IO_L01P_2/CSO_B, 56 IO/L01N_2/INIT_B, 57 IP_L02P_2, 58 IP_L02N_2, 59 VCCO_2, 60 IO_L03P_2/DOUT/BUSY, 61 IO_L03N_2/MOSI/CSI_B, 62 IO_L04P_2, 63 IO_L04N_2, 64 IO_L05P_2, 65 IO_L05N_2, 66 VCCAUX, 67 VCCINT, 68 IO_L06P_2, 69 IO_L06N_2, 70 GND, 71 IP_L07P_2, 72 IP_L07N_2/VREF_2, 73 VCCO_2, 74 10_L08P_2/D7/GCLK12, 75 IO_L08N_2/D6/GCLK13, 76 IO/D5, 77 IO_L09P_2/D4/GCLK14, 78 IO_L09N_2/D3/GCLK15, 79 GND, 80 IP_L10P_2/RDWR_B/GCLK0, 81 IP_L10N_2/M2/GCLK1, 82 IO_L11P_2/D2/GCLK2, 83 IO_L11N_2/D1/GCLK3, 84 IO/M1, 85 GND, 86 IO_L12P_2/M0, 87 IO_L12N_2/DIN/D0, 88 VCCO_2, 89 IO_L13P_2, 90 IO_L13N_2, 91 IP, 92 VCCAUX, 93 IO_L14P_2/A23, 94 IO_L14N_2/A22, 95 GND, 96 IO_L15P_2/A21, 97 IO_L15N_2/A20, 98 IO/VREF_2, 99 IO_L16P_2/VS2/A19, 100 IO_L16N_2/VS1/A18, 101 IP, 102 IO_L17P_2/VS0/A17, 103 IO_L17N_2/CCLK, 104 DONE, 105 GND, 106 IO_L01P_1/A16, 107 IO_L01N_1/A15, 108 IO_L02P_1/A14, 109 IO_L02N_1/A13, 110 IP, 111 VCCAUX, 112 IO_L03P_1, 113 IO_L03N_1/VREF_1, 114 VCC0_1, 115 IO_L04P_1, 116 IO_L04N_1, 117 VCCINT, 118 IP, 119 IO_L05P_1/A12, 120 IO_L05N_1/A11, 121 GND, 122 IO_L06P_1, 123 IO_L06N_1/VREF_1, 124 IP, 125 VCC0_1, 126 IO_L07P_1/A10/RHCLK0, 127 IO_L07N_1/A7/RHCLK1, 128 IO_L08P_1/A8/RHCLK2, 129 IO_L08N_1/A7/RHCLK3, 130 IP, 131 GND, 132 IO_L09P_1/A6/RHCLK4, 133 IO_L09N_1/A5/RHCLK5, 134 IO_L10P_1/A4/RHCLK6, 135 IO_L10N_1/A3/RHCLK7, 136 IP/VREF_1, 137 IO_L11P_1/A2, 138 IO_L11N_1/A1, 139 IO_L12P_1, 140 IO_L12N_1/A0, 141 GND, 142 IP, 143 VCC0_1, 144 IO_L13P_1, 145 IO_L13N_1, 146 IO_L14P_1, 147 IO_L14N_1, 148 IP, 149 VCCAUX, 150 IO_L15P_1/HDC, 151 IO_L15_1/LDC0, 152 IO_16P_1/LDC1, 153 IO_L16N_1/LDC2, 154 IP, 155 TMS, 156 GND, 157 TDO, 158 TCK, 159 IP, 160 IO_L01P_0, 161 IO_L01N_0, 162 IO_L02P_0, 163 IO_L02N_0/VREF_0, 164 IO_L03P_0, 165 IO_L03N_0, 166 VCCAUX, 167 IO_L04P_0, 168 IO_L04N_0/VREF_0, 169 IP, 170 VCCINT, 171 IO_L05P_0, 172 IO_L05N_0, 173 GND, 174 IP_L06P_0, 175 IP_L06N_0, 176 VCCO_0, 177 IO_LO7P_0/GCLK4, 178 IO_L07N_0/GCLK5, 179 IO/VREF_0, 180 IO_L08P_0/GCLK6, 181 IO_L08N_0/GCLK7, 182 GND, 183 IP_L09P_0/GCLK8, 184 IP_LO9N_0/GCLK9, 185 IO_L10P_0/GCLK10, 186 IO_L10N_0/GCLK11, 187 IO, 188 GND, 189 IO_L11P_0, 190 IO_L11N_0, 191 VCCO_0, 192 IO_L12P_0, 193 IO_L12N_0/VREF_0, 194 IP, 195 VCCAUX, 196 IO_L13P_0, 197 IO_L13N_0, 198 GND, 199 IO_L14P_0, 200 IO_L14N_0/VREF_0, 201 VCCO_0, 202 IO_L15P_0, 203 IO_L15N_0, 204 IP, 205 IO_L16P_0, 206 IO_L16N_0/HSWAP, 207 TDI, 208 GND

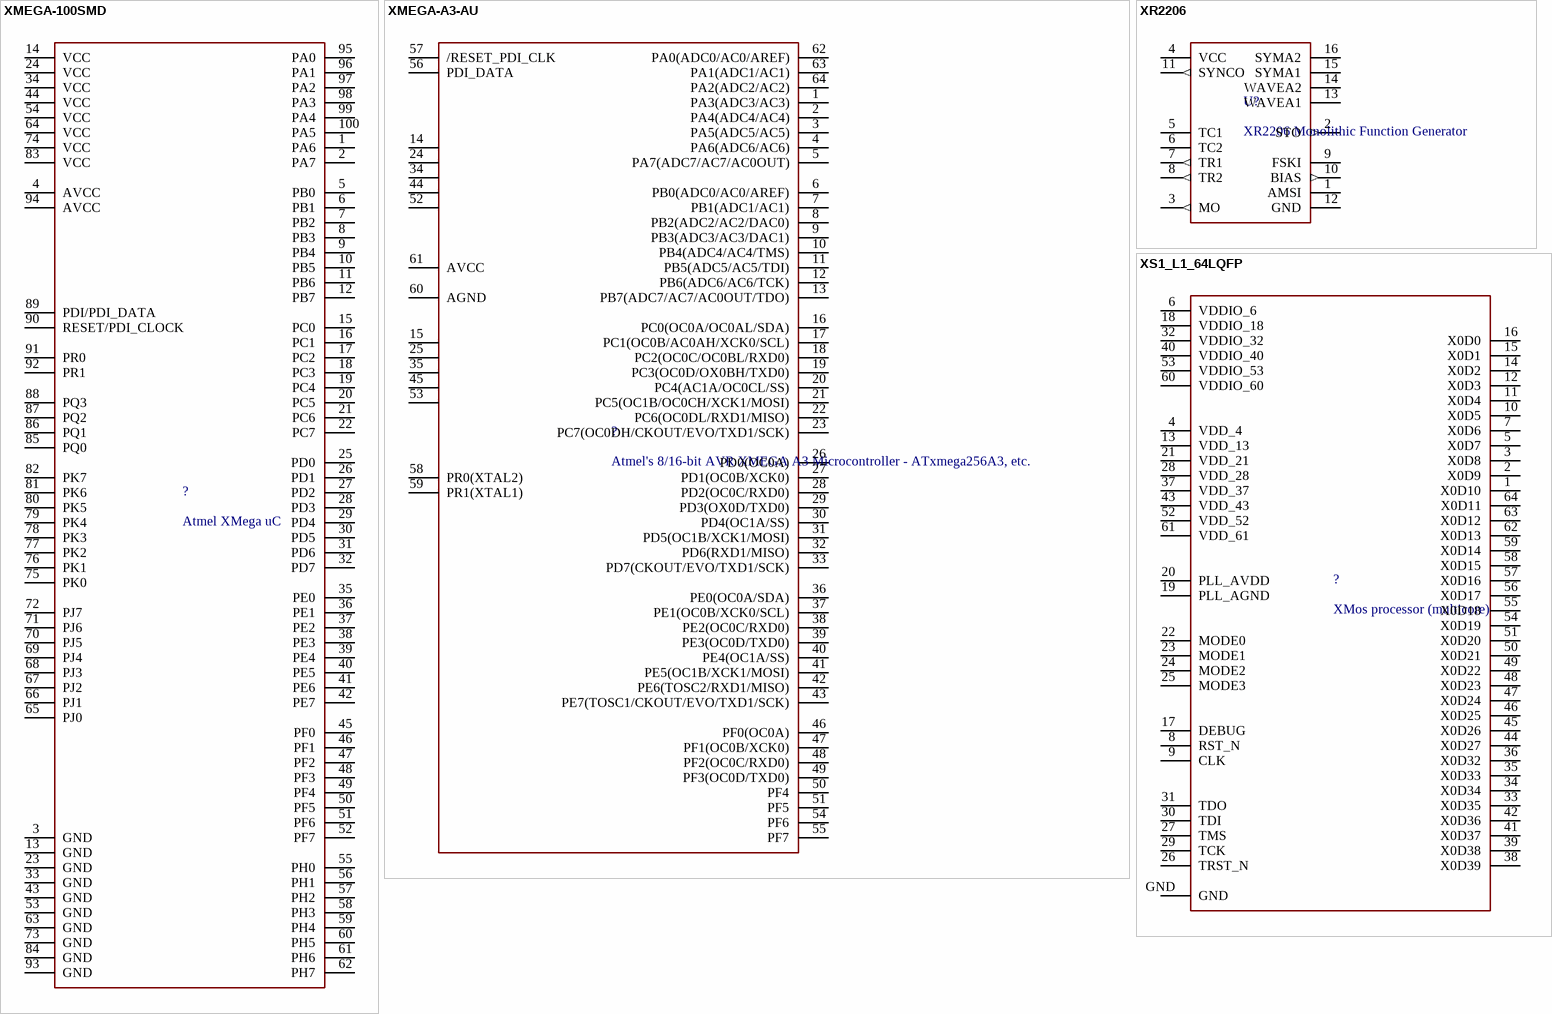
[diagram p23: symbols XMEGA-100SMD to XS1_L1_64LQFP]

## XMEGA-100SMD
designator ?, comment Atmel XMega uC
footprint TQFP-100-14X14MM
pins: 1 PA6, 2 PA7, 3 GND, 4 AVCC, 5 PB0, 6 PB1, 7 PB2, 8 PB3, 9 PB4, 10 PB5, 11 PB6, 12 PB7, 13 GND, 14 VCC, 15 PC0, 16 PC1, 17 PC2, 18 PC3, 19 PC4, 20 PC5, 21 PC6, 22 PC7, 23 GND, 24 VCC, 25 PD0, 26 PD1, 27 PD2, 28 PD3, 29 PD4, 30 PD5, 31 PD6, 32 PD7, 33 GND, 34 VCC, 35 PE0, 36 PE1, 37 PE2, 38 PE3, 39 PE4, 40 PE5, 41 PE6, 42 PE7, 43 GND, 44 VCC, 45 PF0, 46 PF1, 47 PF2, 48 PF3, 49 PF4, 50 PF5, 51 PF6, 52 PF7, 53 GND, 54 VCC, 55 PH0, 56 PH1, 57 PH2, 58 PH3, 59 PH4, 60 PH5, 61 PH6, 62 PH7, 63 GND, 64 VCC, 65 PJ0, 66 PJ1, 67 PJ2, 68 PJ3, 69 PJ4, 70 PJ5, 71 PJ6, 72 PJ7, 73 GND, 74 VCC, 75 PK0, 76 PK1, 77 PK2, 78 PK3, 79 PK4, 80 PK5, 81 PK6, 82 PK7, 83 VCC, 84 GND, 85 PQ0, 86 PQ1, 87 PQ2, 88 PQ3, 89 PDI/PDI_DATA, 90 RESET/PDI_CLOCK, 91 PR0, 92 PR1, 93 GND, 94 AVCC, 95 PA0, 96 PA1, 97 PA2, 98 PA3, 99 PA4, 100 PA5

## XMEGA-A3-AU
designator ?, comment Atmel's 8/16-bit AVR XMEGA A3 Microcontroller - ATxmega256A3, etc.
footprint TQFP64_14X14MM
pins: 1 PA3(ADC3/AC3), 2 PA4(ADC4/AC4), 3 PA5(ADC5/AC5), 4 PA6(ADC6/AC6), 5 PA7(ADC7/AC7/AC0OUT), 6 PB0(ADC0/AC0/AREF), 7 PB1(ADC1/AC1), 8 PB2(ADC2/AC2/DAC0), 9 PB3(ADC3/AC3/DAC1), 10 PB4(ADC4/AC4/TMS), 11 PB5(ADC5/AC5/TDI), 12 PB6(ADC6/AC6/TCK), 13 PB7(ADC7/AC7/AC0OUT/TDO), 14 GND1, 15 VCC1, 16 PC0(OC0A/OC0AL/SDA), 17 PC1(OC0B/AC0AH/XCK0/SCL), 18 PC2(OC0C/OC0BL/RXD0), 19 PC3(OC0D/OX0BH/TXD0), 20 PC4(AC1A/OC0CL/SS), 21 PC5(OC1B/OC0CH/XCK1/MOSI), 22 PC6(OC0DL/RXD1/MISO), 23 PC7(OC0DH/CKOUT/EVO/TXD1/SCK), 24 GND2, 25 VCC2, 26 PD0(OC0A), 27 PD1(OC0B/XCK0), 28 PD2(OC0C/RXD0), 29 PD3(OX0D/TXD0), 30 PD4(OC1A/SS), 31 PD5(OC1B/XCK1/MOSI), 32 PD6(RXD1/MISO), 33 PD7(CKOUT/EVO/TXD1/SCK), 34 GND3, 35 VCC3, 36 PE0(OC0A/SDA), 37 PE1(OC0B/XCK0/SCL), 38 PE2(OC0C/RXD0), 39 PE3(OC0D/TXD0), 40 PE4(OC1A/SS), 41 PE5(OC1B/XCK1/MOSI), 42 PE6(TOSC2/RXD1/MISO), 43 PE7(TOSC1/CKOUT/EVO/TXD1/SCK), 44 GND4, 45 VCC4, 46 PF0(OC0A), 47 PF1(OC0B/XCK0), 48 PF2(OC0C/RXD0), 49 PF3(OC0D/TXD0), 50 PF4, 51 PF5, 52 GND5, 53 VCC5, 54 PF6, 55 PF7, 56 PDI_DATA, 57 /RESET_PDI_CLK, 58 PR0(XTAL2), 59 PR1(XTAL1), 60 AGND, 61 AVCC, 62 PA0(ADC0/AC0/AREF), 63 PA1(ADC1/AC1), 64 PA2(ADC2/AC2)

## XR2206
designator U?, comment XR2206 Monolithic Function Generator
footprint DIL16
pins: 1 AMSI, 2 STO (out), 3 MO (out), 4 VCC (power), 5 TC1, 6 TC2, 7 TR1 (out), 8 TR2 (out), 9 FSKI, 10 BIAS (out), 11 SYNCO (out), 12 GND (power), 13 WAVEA1, 14 WAVEA2, 15 SYMA1, 16 SYMA2

## XS1_L1_64LQFP
designator ?, comment XMos processor (multicore)
footprint SQFP-S-10X10-64-XS1
pins: 1 X0D10, 2 X0D9, 3 X0D8, 4 VDD_4, 5 X0D7, 6 VDDIO_6, 7 X0D6, 8 RST_N, 9 CLK, 10 X0D5, 11 X0D4, 12 X0D3, 13 VDD_13, 14 X0D2, 15 X0D1, 16 X0D0, 17 DEBUG, 18 VDDIO_18, 19 PLL_AGND, 20 PLL_AVDD, 21 VDD_21, 22 MODE0, 23 MODE1, 24 MODE2, 25 MODE3, 26 TRST_N, 27 TMS, 28 VDD_28, 29 TCK, 30 TDI, 31 TDO, 32 VDDIO_32, 33 X0D35, 34 X0D34, 35 X0D33, 36 X0D32, 37 VDD_37, 38 X0D39, 39 X0D38, 40 VDDIO_40, 41 X0D37, 42 X0D36, 43 VDD_43, 44 X0D27, 45 X0D26, 46 X0D25, 47 X0D24, 48 X0D23, 49 X0D22, 50 X0D21, 51 X0D20, 52 VDD_52, 53 VDDIO_53, 54 X0D19, 55 X0D18, 56 X0D17, 57 X0D16, 58 X0D15, 59 X0D14, 60 VDDIO_60, 61 VDD_61, 62 X0D13, 63 X0D12, 64 X0D11, GND